# Altium integrated library Renesas Microcontroller H8SX.IntLib: 160 symbols (part 6 of 17)
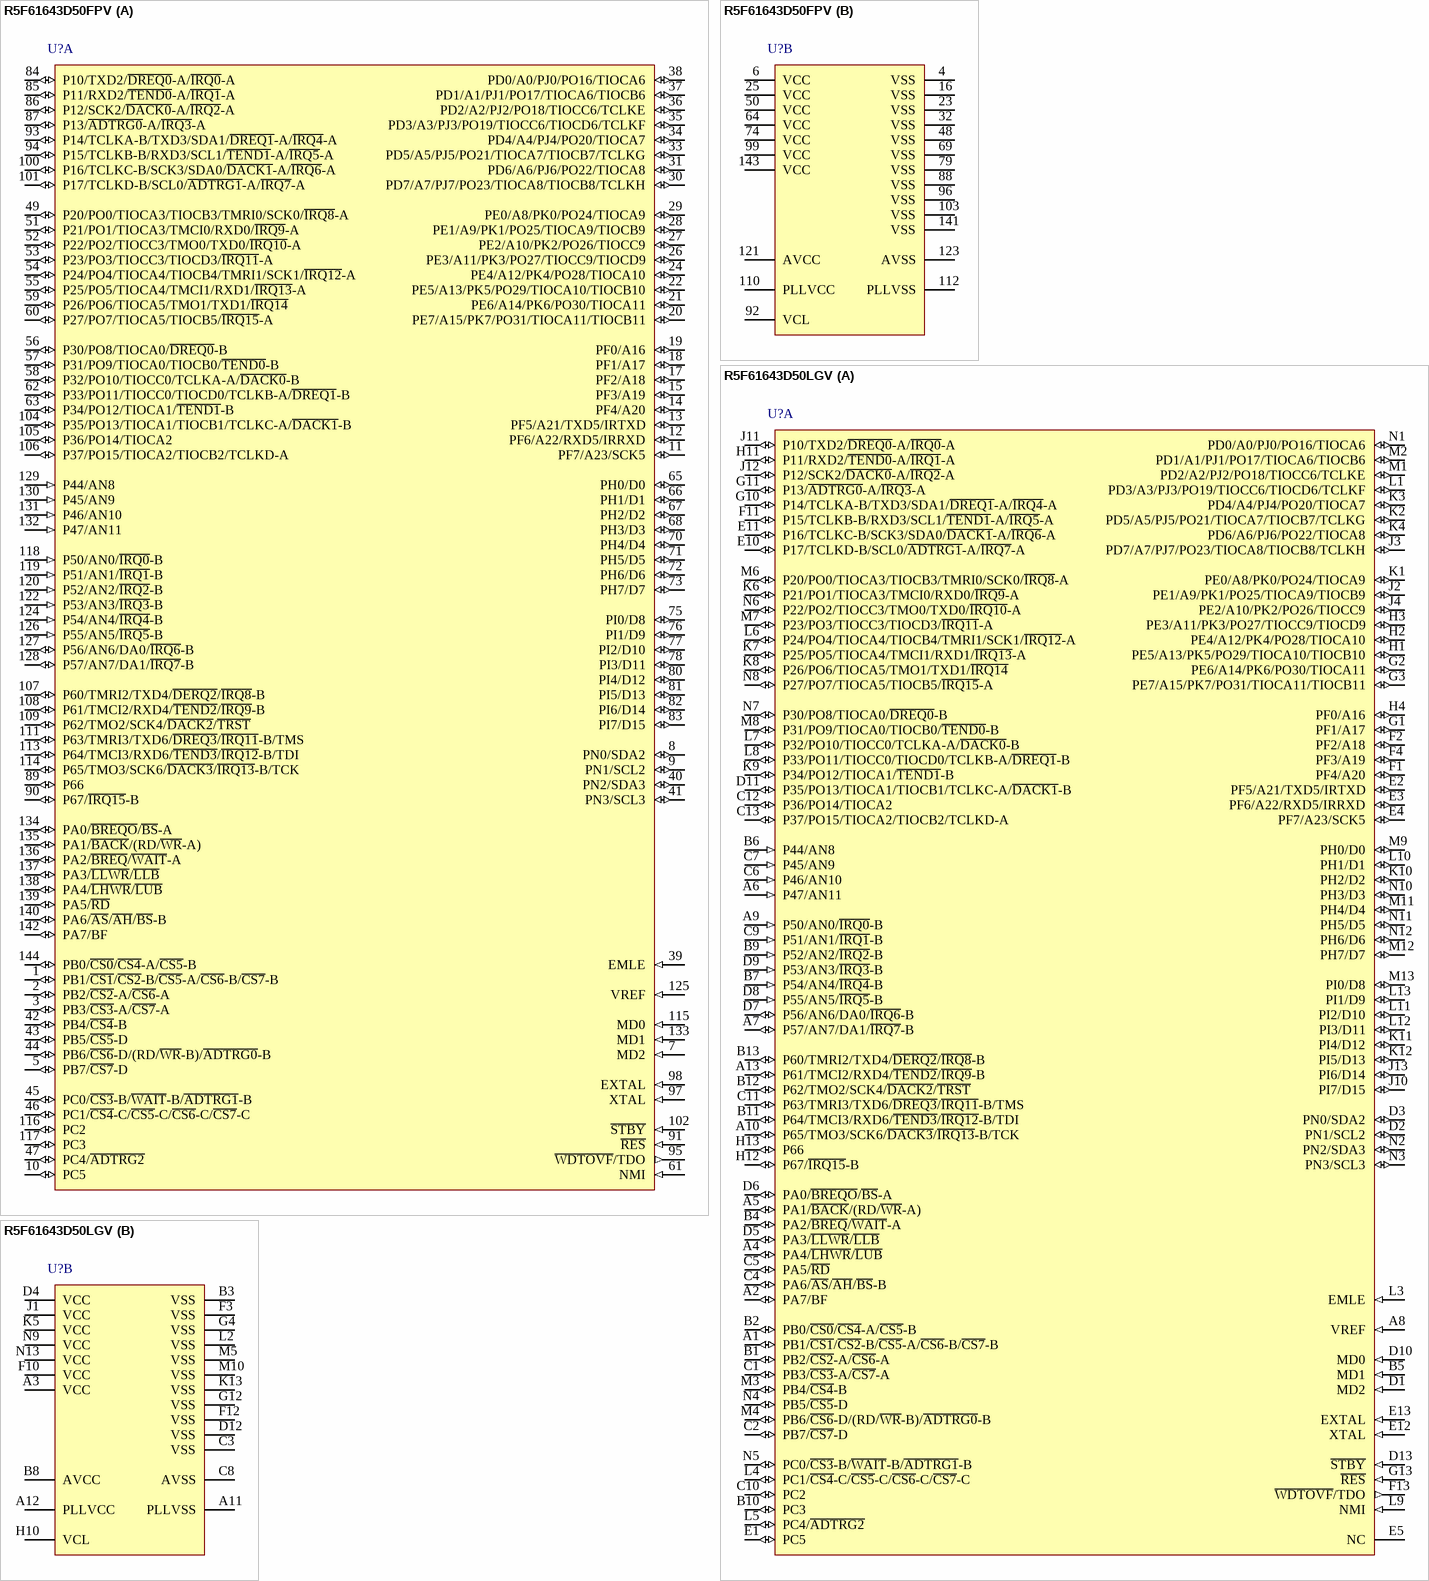
[diagram p95: symbols R5F61643D50FPV to R5F61643D50LGV]

## R5F61643D50LGV
designator U?
Flash memory H8SX/1600 Series, 1645 Group MCU, 384K ROM, 32K RAM, TLP-145V Pkg; Published: 28-Aug-2009; DatasheetVersion: Rev.2.00, Oct-2009; PackageVersion: Jun-2006; PackageReference: PTLG0145JB-A; Publisher: Altium Limited; PackageDescription: 145-Ball Plastic Thin Fine-Pitch BGA, 9 x 9 mm Body, 0.65 mm Pitch; Code_JEITA: P-TFLGA145-9x9-0.65; ComponentLink1Description: Manufacturer Link; ComponentLink1URL: http://sg.renesas.com/fmwk.jsp?cnt=h8sx_family_landing.jsp&fp=/products/mpumcu/h8sx_family/; ComponentLink2Description: Datasheet; ComponentLink2URL: http://documentation.renesas.com/eng/products/mpumcu/rej09b0497_h8sx1645hm.pdf; ComponentLink3Description: Packaging Specification; ComponentLink3URL: http://sg.renesas.com/media/products/common_info/package/pdf/ic/code/ptlg0145jb_a.pdf
footprint PTLG0145JB-A (BGA, 145-Leads, Body 9x9mm, Pitch 0.65mm)
part A pins: A1 PB1/~{CS1}/~{CS2}-B/~{CS5}-A/~{CS6}-B/~{CS7}-B (io), A2 PA7/BF (io), A4 PA4/~{LHWR}/~{LUB} (io), A5 PA1/~{BACK}/(RD/~{WR}-A) (io), A6 P47/AN11 (in), A7 P57/AN7/DA1/~{IRQ7}-B (io), A8 VREF (in), A9 P50/AN0/~{IRQ0}-B (in), A10 P65/TMO3/SCK6/~{DACK3}/~{IRQ13}-B/TCK (io), A13 P61/TMCI2/RXD4/~{TEND2}/~{IRQ9}-B (io), B1 PB2/~{CS2}-A/~{CS6}-A (io), B2 PB0/~{CS0}/~{CS4}-A/~{CS5}-B (io), B4 PA2/~{BREQ}/~{WAIT}-A (io), B5 MD1 (in), B6 P44/AN8 (in), B7 P54/AN4/~{IRQ4}-B (in), B9 P52/AN2/~{IRQ2}-B (in), B10 PC3 (io), B11 P64/TMCI3/RXD6/~{TEND3}/~{IRQ12}-B/TDI (io), B12 P62/TMO2/SCK4/~{DACK2}/~{TRST} (io), B13 P60/TMRI2/TXD4/~{DERQ2}/~{IRQ8}-B (io), C1 PB3/~{CS3}-A/~{CS7}-A (io), C2 PB7/~{CS7}-D (io), C4 PA6/~{AS}/~{AH}/~{BS}-B (io), C5 PA5/~{RD} (io), C6 P46/AN10 (in), C7 P45/AN9 (in), C9 P51/AN1/~{IRQ1}-B (in), C10 PC2 (io), C11 P63/TMRI3/TXD6/~{DREQ3}/~{IRQ11}-B/TMS (io), C12 P36/PO14/TIOCA2 (io), C13 P37/PO15/TIOCA2/TIOCB2/TCLKD-A (io), D1 MD2 (in), D2 PN1/SCL2 (io), D3 PN0/SDA2 (io), D5 PA3/~{LLWR}/~{LLB} (io), D6 PA0/~{BREQO}/~{BS}-A (io), D7 P56/AN6/DA0/~{IRQ6}-B (io), D8 P55/AN5/~{IRQ5}-B (in), D9 P53/AN3/~{IRQ3}-B (in), D10 MD0 (in), D11 P35/PO13/TIOCA1/TIOCB1/TCLKC-A/~{DACK1}-B (io), D13 ~{STBY} (in), E1 PC5 (io), E2 PF5/A21/TXD5/IRTXD (io), E3 PF6/A22/RXD5/IRRXD (io), E4 PF7/A23/SCK5 (io), E5 NC, E10 P17/TCLKD-B/SCL0/~{ADTRG1}-A/~{IRQ7}-A (io), E11 P16/TCLKC-B/SCK3/SDA0/~{DACK1}-A/~{IRQ6}-A (io), E12 XTAL (in), E13 EXTAL (in), F1 PF4/A20 (io), F2 PF2/A18 (io), F4 PF3/A19 (io), F11 P15/TCLKB-B/RXD3/SCL1/~{TEND1}-A/~{IRQ5}-A (io), F13 ~{WDTOVF}/TDO (out), G1 PF1/A17 (io), G2 PE6/A14/PK6/PO30/TIOCA11 (io), G3 PE7/A15/PK7/PO31/TIOCA11/TIOCB11 (io), G10 P14/TCLKA-B/TXD3/SDA1/~{DREQ1}-A/~{IRQ4}-A (io), G11 P13/~{ADTRG0}-A/~{IRQ3}-A (io), G13 ~{RES} (in), H1 PE5/A13/PK5/PO29/TIOCA10/TIOCB10 (io), H2 PE4/A12/PK4/PO28/TIOCA10 (io), H3 PE3/A11/PK3/PO27/TIOCC9/TIOCD9 (io), H4 PF0/A16 (io), H11 P11/RXD2/~{TEND0}-A/~{IRQ1}-A (io), H12 P67/~{IRQ15}-B (io), H13 P66 (io), J2 PE1/A9/PK1/PO25/TIOCA9/TIOCB9 (io), J3 PD7/A7/PJ7/PO23/TIOCA8/TIOCB8/TCLKH (io), J4 PE2/A10/PK2/PO26/TIOCC9 (io), J10 PI7/D15 (io), J11 P10/TXD2/~{DREQ0}-A/~{IRQ0}-A (io), J12 P12/SCK2/~{DACK0}-A/~{IRQ2}-A (io), J13 PI6/D14 (io), K1 PE0/A8/PK0/PO24/TIOCA9 (io), K2 PD5/A5/PJ5/PO21/TIOCA7/TIOCB7/TCLKG (io), K3 PD4/A4/PJ4/PO20/TIOCA7 (io), K4 PD6/A6/PJ6/PO22/TIOCA8 (io), K6 P21/PO1/TIOCA3/TMCI0/RXD0/~{IRQ9}-A (io), K7 P25/PO5/TIOCA4/TMCI1/RXD1/~{IRQ13}-A (io), K8 P26/PO6/TIOCA5/TMO1/TXD1/~{IRQ14} (io), K9 P34/PO12/TIOCA1/~{TEND1}-B (io), K10 PH2/D2 (io), K11 PI4/D12 (io), K12 PI5/D13 (io), L1 PD3/A3/PJ3/PO19/TIOCC6/TIOCD6/TCLKF (io), L3 EMLE (in), L4 PC1/~{CS4}-C/~{CS5}-C/~{CS6}-C/~{CS7}-C (io), L5 PC4/~{ADTRG2} (io), L6 P24/PO4/TIOCA4/TIOCB4/TMRI1/SCK1/~{IRQ12}-A (io), L7 P32/PO10/TIOCC0/TCLKA-A/~{DACK0}-B (io), L8 P33/PO11/TIOCC0/TIOCD0/TCLKB-A/~{DREQ1}-B (io), L9 NMI (in), L10 PH1/D1 (io), L11 PI2/D10 (io), L12 PI3/D11 (io), L13 PI1/D9 (io), M1 PD2/A2/PJ2/PO18/TIOCC6/TCLKE (io), M2 PD1/A1/PJ1/PO17/TIOCA6/TIOCB6 (io), M3 PB4/~{CS4}-B (io), M4 PB6/~{CS6}-D/(RD/~{WR}-B)/~{ADTRG0}-B (io), M6 P20/PO0/TIOCA3/TIOCB3/TMRI0/SCK0/~{IRQ8}-A (io), M7 P23/PO3/TIOCC3/TIOCD3/~{IRQ11}-A (io), M8 P31/PO9/TIOCA0/TIOCB0/~{TEND0}-B (io), M9 PH0/D0 (io), M11 PH4/D4 (io), M12 PH7/D7 (io), M13 PI0/D8 (io), N1 PD0/A0/PJ0/PO16/TIOCA6 (io), N2 PN2/SDA3 (io), N3 PN3/SCL3 (io), N4 PB5/~{CS5}-D (io), N5 PC0/~{CS3}-B/~{WAIT}-B/~{ADTRG1}-B (io), N6 P22/PO2/TIOCC3/TMO0/TXD0/~{IRQ10}-A (io), N7 P30/PO8/TIOCA0/~{DREQ0}-B (io), N8 P27/PO7/TIOCA5/TIOCB5/~{IRQ15}-A (io), N10 PH3/D3 (io), N11 PH5/D5 (io), N12 PH6/D6 (io)
part B pins: A3 VCC (power), A11 PLLVSS (power), A12 PLLVCC (power), B3 VSS (power), B8 AVCC (power), C3 VSS (power), C8 AVSS (power), D4 VCC (power), D12 VSS (power), F3 VSS (power), F10 VCC (power), F12 VSS (power), G4 VSS (power), G12 VSS (power), H10 VCL, J1 VCC (power), K5 VCC (power), K13 VSS (power), L2 VSS (power), M5 VSS (power), M10 VSS (power), N9 VCC (power), N13 VCC (power)

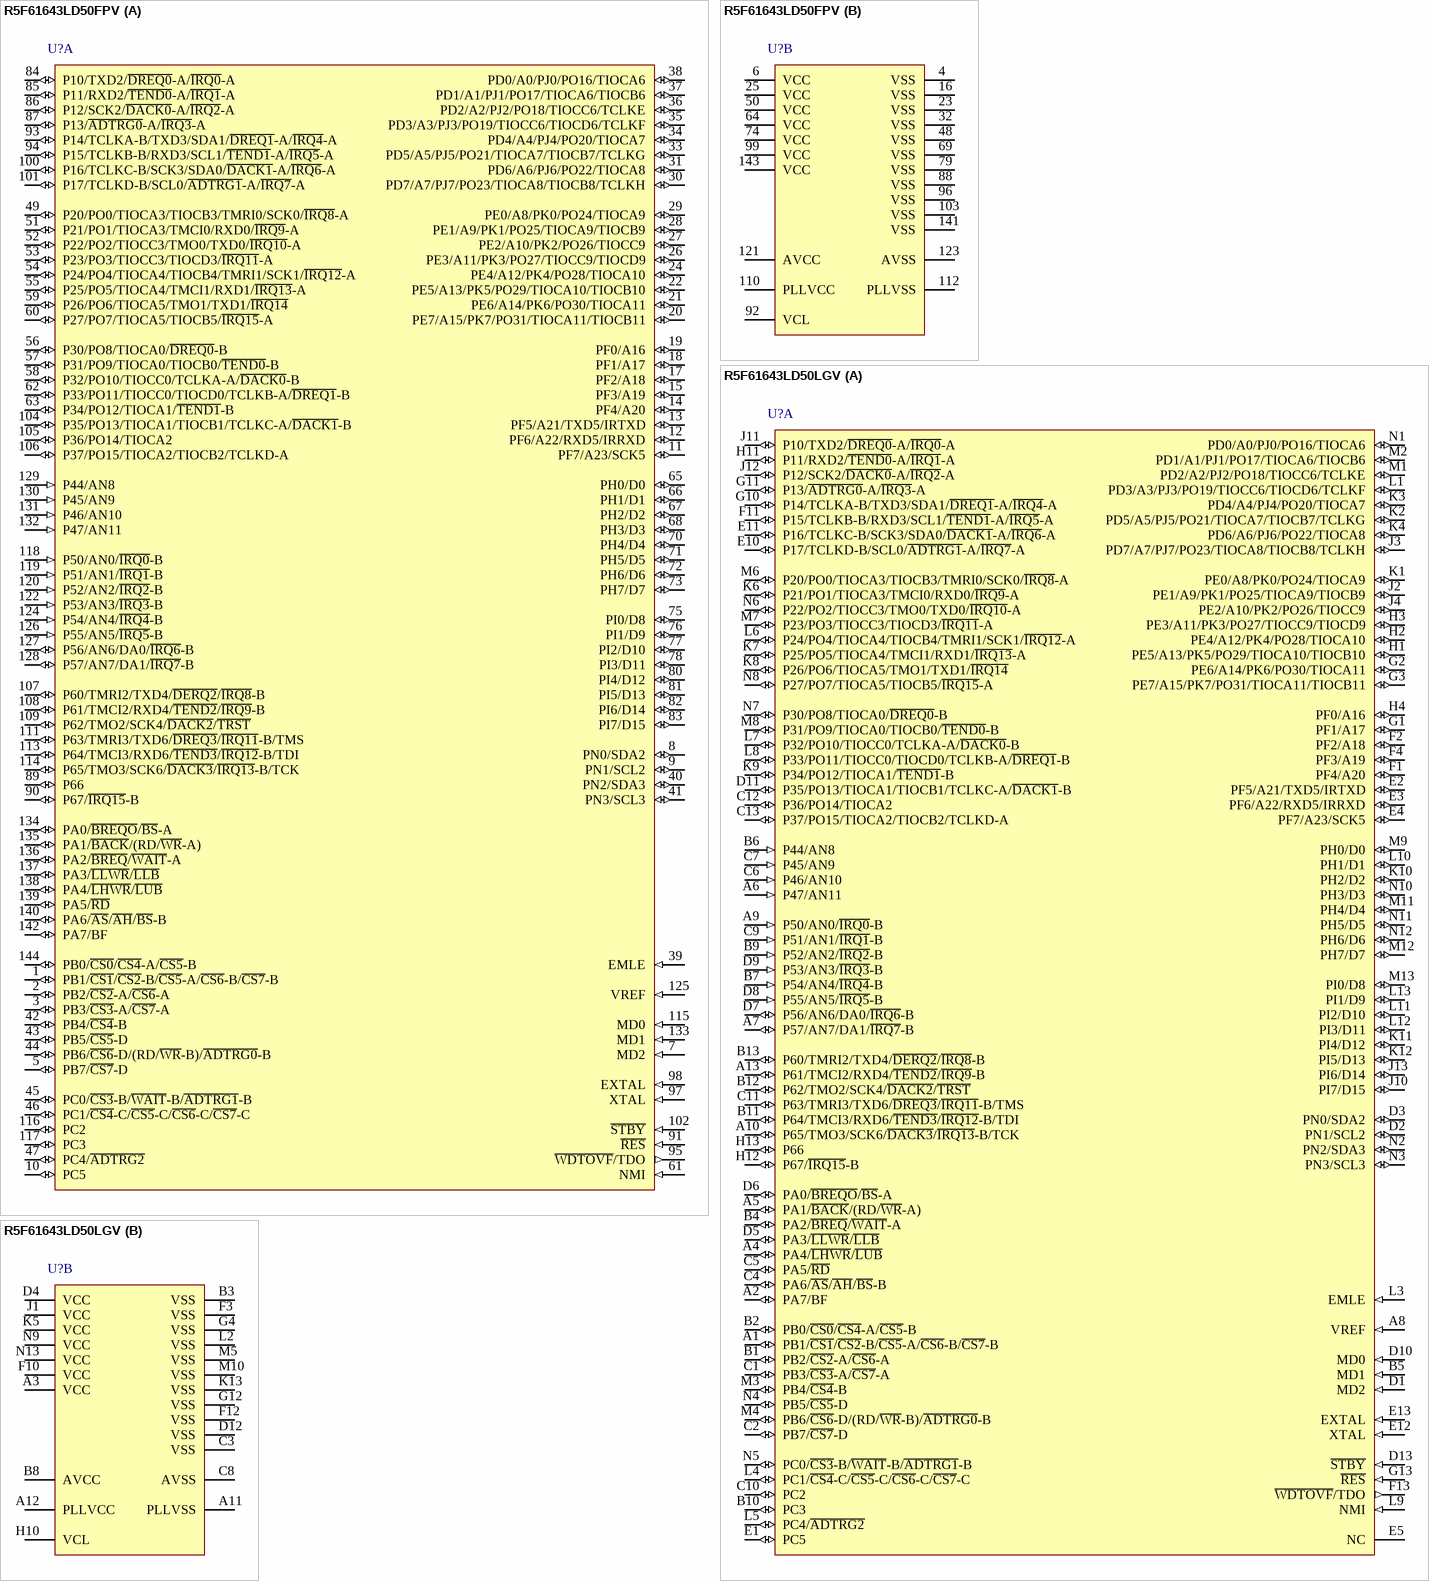
[diagram p27: symbols R5F61643LD50FPV to R5F61643LD50LGV]

## R5F61643LD50FPV
designator U?
Flash memory H8SX/1600 Series, 1645L Group MCU, 384K ROM, 32K RAM, FP-144L Pkg; Published: 12-Feb-2010; DatasheetVersion: Rev.2.00, Oct-2009; PackageVersion: Sep-2005; PackageReference: PLQP0144KA-A; Publisher: Altium Limited; PackageDescription: 144-Pin Plastic Low Profile QFP, 20 x 20 x 1.4 mm Body, 0.5 mm Pitch; Code_JEITA: P-LQFP144-20x20-0.50; Code_IPC: SQFP50P2200X2200-144; ComponentLink1Description: Manufacturer Link; ComponentLink1URL: http://sg.renesas.com/fmwk.jsp?cnt=h8sx_family_landing.jsp&fp=/products/mpumcu/h8sx_family/; ComponentLink2Description: Datasheet; ComponentLink2URL: http://documentation.renesas.com/eng/products/mpumcu/rej09b0497_h8sx1645hm.pdf; ComponentLink3Description: Packaging Specification; ComponentLink3URL: http://sg.renesas.com/media/products/common_info/package/pdf/ic/code/plqp0144ka_a.pdf
footprint PLQP0144KA-A_N (Shrink QFP, 144-Leads, Body 20x20mm, Pitch 0.5mm, IPC Medium Density)
footprint PLQP0144KA-A_L (Shrink QFP, 144-Leads, Body 20x20mm, Pitch 0.5mm, IPC High Density)
footprint PLQP0144KA-A_M (Shrink QFP, 144-Leads, Body 20x20mm, Pitch 0.5mm, IPC Low Density)
part A pins: 1 PB1/~{CS1}/~{CS2}-B/~{CS5}-A/~{CS6}-B/~{CS7}-B (io), 2 PB2/~{CS2}-A/~{CS6}-A (io), 3 PB3/~{CS3}-A/~{CS7}-A (io), 5 PB7/~{CS7}-D (io), 7 MD2 (in), 8 PN0/SDA2 (io), 9 PN1/SCL2 (io), 10 PC5 (io), 11 PF7/A23/SCK5 (io), 12 PF6/A22/RXD5/IRRXD (io), 13 PF5/A21/TXD5/IRTXD (io), 14 PF4/A20 (io), 15 PF3/A19 (io), 17 PF2/A18 (io), 18 PF1/A17 (io), 19 PF0/A16 (io), 20 PE7/A15/PK7/PO31/TIOCA11/TIOCB11 (io), 21 PE6/A14/PK6/PO30/TIOCA11 (io), 22 PE5/A13/PK5/PO29/TIOCA10/TIOCB10 (io), 24 PE4/A12/PK4/PO28/TIOCA10 (io), 26 PE3/A11/PK3/PO27/TIOCC9/TIOCD9 (io), 27 PE2/A10/PK2/PO26/TIOCC9 (io), 28 PE1/A9/PK1/PO25/TIOCA9/TIOCB9 (io), 29 PE0/A8/PK0/PO24/TIOCA9 (io), 30 PD7/A7/PJ7/PO23/TIOCA8/TIOCB8/TCLKH (io), 31 PD6/A6/PJ6/PO22/TIOCA8 (io), 33 PD5/A5/PJ5/PO21/TIOCA7/TIOCB7/TCLKG (io), 34 PD4/A4/PJ4/PO20/TIOCA7 (io), 35 PD3/A3/PJ3/PO19/TIOCC6/TIOCD6/TCLKF (io), 36 PD2/A2/PJ2/PO18/TIOCC6/TCLKE (io), 37 PD1/A1/PJ1/PO17/TIOCA6/TIOCB6 (io), 38 PD0/A0/PJ0/PO16/TIOCA6 (io), 39 EMLE (in), 40 PN2/SDA3 (io), 41 PN3/SCL3 (io), 42 PB4/~{CS4}-B (io), 43 PB5/~{CS5}-D (io), 44 PB6/~{CS6}-D/(RD/~{WR}-B)/~{ADTRG0}-B (io), 45 PC0/~{CS3}-B/~{WAIT}-B/~{ADTRG1}-B (io), 46 PC1/~{CS4}-C/~{CS5}-C/~{CS6}-C/~{CS7}-C (io), 47 PC4/~{ADTRG2} (io), 49 P20/PO0/TIOCA3/TIOCB3/TMRI0/SCK0/~{IRQ8}-A (io), 51 P21/PO1/TIOCA3/TMCI0/RXD0/~{IRQ9}-A (io), 52 P22/PO2/TIOCC3/TMO0/TXD0/~{IRQ10}-A (io), 53 P23/PO3/TIOCC3/TIOCD3/~{IRQ11}-A (io), 54 P24/PO4/TIOCA4/TIOCB4/TMRI1/SCK1/~{IRQ12}-A (io), 55 P25/PO5/TIOCA4/TMCI1/RXD1/~{IRQ13}-A (io), 56 P30/PO8/TIOCA0/~{DREQ0}-B (io), 57 P31/PO9/TIOCA0/TIOCB0/~{TEND0}-B (io), 58 P32/PO10/TIOCC0/TCLKA-A/~{DACK0}-B (io), 59 P26/PO6/TIOCA5/TMO1/TXD1/~{IRQ14} (io), 60 P27/PO7/TIOCA5/TIOCB5/~{IRQ15}-A (io), 61 NMI (in), 62 P33/PO11/TIOCC0/TIOCD0/TCLKB-A/~{DREQ1}-B (io), 63 P34/PO12/TIOCA1/~{TEND1}-B (io), 65 PH0/D0 (io), 66 PH1/D1 (io), 67 PH2/D2 (io), 68 PH3/D3 (io), 70 PH4/D4 (io), 71 PH5/D5 (io), 72 PH6/D6 (io), 73 PH7/D7 (io), 75 PI0/D8 (io), 76 PI1/D9 (io), 77 PI2/D10 (io), 78 PI3/D11 (io), 80 PI4/D12 (io), 81 PI5/D13 (io), 82 PI6/D14 (io), 83 PI7/D15 (io), 84 P10/TXD2/~{DREQ0}-A/~{IRQ0}-A (io), 85 P11/RXD2/~{TEND0}-A/~{IRQ1}-A (io), 86 P12/SCK2/~{DACK0}-A/~{IRQ2}-A (io), 87 P13/~{ADTRG0}-A/~{IRQ3}-A (io), 89 P66 (io), 90 P67/~{IRQ15}-B (io), 91 ~{RES} (in), 93 P14/TCLKA-B/TXD3/SDA1/~{DREQ1}-A/~{IRQ4}-A (io), 94 P15/TCLKB-B/RXD3/SCL1/~{TEND1}-A/~{IRQ5}-A (io), 95 ~{WDTOVF}/TDO (out), 97 XTAL (in), 98 EXTAL (in), 100 P16/TCLKC-B/SCK3/SDA0/~{DACK1}-A/~{IRQ6}-A (io), 101 P17/TCLKD-B/SCL0/~{ADTRG1}-A/~{IRQ7}-A (io), 102 ~{STBY} (in), 104 P35/PO13/TIOCA1/TIOCB1/TCLKC-A/~{DACK1}-B (io), 105 P36/PO14/TIOCA2 (io), 106 P37/PO15/TIOCA2/TIOCB2/TCLKD-A (io), 107 P60/TMRI2/TXD4/~{DERQ2}/~{IRQ8}-B (io), 108 P61/TMCI2/RXD4/~{TEND2}/~{IRQ9}-B (io), 109 P62/TMO2/SCK4/~{DACK2}/~{TRST} (io), 111 P63/TMRI3/TXD6/~{DREQ3}/~{IRQ11}-B/TMS (io), 113 P64/TMCI3/RXD6/~{TEND3}/~{IRQ12}-B/TDI (io), 114 P65/TMO3/SCK6/~{DACK3}/~{IRQ13}-B/TCK (io), 115 MD0 (in), 116 PC2 (io), 117 PC3 (io), 118 P50/AN0/~{IRQ0}-B (in), 119 P51/AN1/~{IRQ1}-B (in), 120 P52/AN2/~{IRQ2}-B (in), 122 P53/AN3/~{IRQ3}-B (in), 124 P54/AN4/~{IRQ4}-B (in), 125 VREF (in), 126 P55/AN5/~{IRQ5}-B (in), 127 P56/AN6/DA0/~{IRQ6}-B (io), 128 P57/AN7/DA1/~{IRQ7}-B (io), 129 P44/AN8 (in), 130 P45/AN9 (in), 131 P46/AN10 (in), 132 P47/AN11 (in), 133 MD1 (in), 134 PA0/~{BREQO}/~{BS}-A (io), 135 PA1/~{BACK}/(RD/~{WR}-A) (io), 136 PA2/~{BREQ}/~{WAIT}-A (io), 137 PA3/~{LLWR}/~{LLB} (io), 138 PA4/~{LHWR}/~{LUB} (io), 139 PA5/~{RD} (io), 140 PA6/~{AS}/~{AH}/~{BS}-B (io), 142 PA7/BF (io), 144 PB0/~{CS0}/~{CS4}-A/~{CS5}-B (io)
part B pins: 4 VSS (power), 6 VCC (power), 16 VSS (power), 23 VSS (power), 25 VCC (power), 32 VSS (power), 48 VSS (power), 50 VCC (power), 64 VCC (power), 69 VSS (power), 74 VCC (power), 79 VSS (power), 88 VSS (power), 92 VCL, 96 VSS (power), 99 VCC (power), 103 VSS (power), 110 PLLVCC (power), 112 PLLVSS (power), 121 AVCC (power), 123 AVSS (power), 141 VSS (power), 143 VCC (power)

## R5F61643LD50LGV
designator U?
Flash memory H8SX/1600 Series, 1645L Group MCU, 384K ROM, 32K RAM, TLP-145V Pkg; Published: 12-Feb-2010; DatasheetVersion: Rev.2.00, Oct-2009; PackageVersion: Jun-2006; PackageReference: PTLG0145JB-A; Publisher: Altium Limited; PackageDescription: 145-Ball Plastic Thin Fine-Pitch BGA, 9 x 9 mm Body, 0.65 mm Pitch; Code_JEITA: P-TFLGA145-9x9-0.65; ComponentLink1Description: Manufacturer Link; ComponentLink1URL: http://sg.renesas.com/fmwk.jsp?cnt=h8sx_family_landing.jsp&fp=/products/mpumcu/h8sx_family/; ComponentLink2Description: Datasheet; ComponentLink2URL: http://documentation.renesas.com/eng/products/mpumcu/rej09b0497_h8sx1645hm.pdf; ComponentLink3Description: Packaging Specification; ComponentLink3URL: http://sg.renesas.com/media/products/common_info/package/pdf/ic/code/ptlg0145jb_a.pdf
footprint PTLG0145JB-A (BGA, 145-Leads, Body 9x9mm, Pitch 0.65mm)
part A pins: A1 PB1/~{CS1}/~{CS2}-B/~{CS5}-A/~{CS6}-B/~{CS7}-B (io), A2 PA7/BF (io), A4 PA4/~{LHWR}/~{LUB} (io), A5 PA1/~{BACK}/(RD/~{WR}-A) (io), A6 P47/AN11 (in), A7 P57/AN7/DA1/~{IRQ7}-B (io), A8 VREF (in), A9 P50/AN0/~{IRQ0}-B (in), A10 P65/TMO3/SCK6/~{DACK3}/~{IRQ13}-B/TCK (io), A13 P61/TMCI2/RXD4/~{TEND2}/~{IRQ9}-B (io), B1 PB2/~{CS2}-A/~{CS6}-A (io), B2 PB0/~{CS0}/~{CS4}-A/~{CS5}-B (io), B4 PA2/~{BREQ}/~{WAIT}-A (io), B5 MD1 (in), B6 P44/AN8 (in), B7 P54/AN4/~{IRQ4}-B (in), B9 P52/AN2/~{IRQ2}-B (in), B10 PC3 (io), B11 P64/TMCI3/RXD6/~{TEND3}/~{IRQ12}-B/TDI (io), B12 P62/TMO2/SCK4/~{DACK2}/~{TRST} (io), B13 P60/TMRI2/TXD4/~{DERQ2}/~{IRQ8}-B (io), C1 PB3/~{CS3}-A/~{CS7}-A (io), C2 PB7/~{CS7}-D (io), C4 PA6/~{AS}/~{AH}/~{BS}-B (io), C5 PA5/~{RD} (io), C6 P46/AN10 (in), C7 P45/AN9 (in), C9 P51/AN1/~{IRQ1}-B (in), C10 PC2 (io), C11 P63/TMRI3/TXD6/~{DREQ3}/~{IRQ11}-B/TMS (io), C12 P36/PO14/TIOCA2 (io), C13 P37/PO15/TIOCA2/TIOCB2/TCLKD-A (io), D1 MD2 (in), D2 PN1/SCL2 (io), D3 PN0/SDA2 (io), D5 PA3/~{LLWR}/~{LLB} (io), D6 PA0/~{BREQO}/~{BS}-A (io), D7 P56/AN6/DA0/~{IRQ6}-B (io), D8 P55/AN5/~{IRQ5}-B (in), D9 P53/AN3/~{IRQ3}-B (in), D10 MD0 (in), D11 P35/PO13/TIOCA1/TIOCB1/TCLKC-A/~{DACK1}-B (io), D13 ~{STBY} (in), E1 PC5 (io), E2 PF5/A21/TXD5/IRTXD (io), E3 PF6/A22/RXD5/IRRXD (io), E4 PF7/A23/SCK5 (io), E5 NC, E10 P17/TCLKD-B/SCL0/~{ADTRG1}-A/~{IRQ7}-A (io), E11 P16/TCLKC-B/SCK3/SDA0/~{DACK1}-A/~{IRQ6}-A (io), E12 XTAL (in), E13 EXTAL (in), F1 PF4/A20 (io), F2 PF2/A18 (io), F4 PF3/A19 (io), F11 P15/TCLKB-B/RXD3/SCL1/~{TEND1}-A/~{IRQ5}-A (io), F13 ~{WDTOVF}/TDO (out), G1 PF1/A17 (io), G2 PE6/A14/PK6/PO30/TIOCA11 (io), G3 PE7/A15/PK7/PO31/TIOCA11/TIOCB11 (io), G10 P14/TCLKA-B/TXD3/SDA1/~{DREQ1}-A/~{IRQ4}-A (io), G11 P13/~{ADTRG0}-A/~{IRQ3}-A (io), G13 ~{RES} (in), H1 PE5/A13/PK5/PO29/TIOCA10/TIOCB10 (io), H2 PE4/A12/PK4/PO28/TIOCA10 (io), H3 PE3/A11/PK3/PO27/TIOCC9/TIOCD9 (io), H4 PF0/A16 (io), H11 P11/RXD2/~{TEND0}-A/~{IRQ1}-A (io), H12 P67/~{IRQ15}-B (io), H13 P66 (io), J2 PE1/A9/PK1/PO25/TIOCA9/TIOCB9 (io), J3 PD7/A7/PJ7/PO23/TIOCA8/TIOCB8/TCLKH (io), J4 PE2/A10/PK2/PO26/TIOCC9 (io), J10 PI7/D15 (io), J11 P10/TXD2/~{DREQ0}-A/~{IRQ0}-A (io), J12 P12/SCK2/~{DACK0}-A/~{IRQ2}-A (io), J13 PI6/D14 (io), K1 PE0/A8/PK0/PO24/TIOCA9 (io), K2 PD5/A5/PJ5/PO21/TIOCA7/TIOCB7/TCLKG (io), K3 PD4/A4/PJ4/PO20/TIOCA7 (io), K4 PD6/A6/PJ6/PO22/TIOCA8 (io), K6 P21/PO1/TIOCA3/TMCI0/RXD0/~{IRQ9}-A (io), K7 P25/PO5/TIOCA4/TMCI1/RXD1/~{IRQ13}-A (io), K8 P26/PO6/TIOCA5/TMO1/TXD1/~{IRQ14} (io), K9 P34/PO12/TIOCA1/~{TEND1}-B (io), K10 PH2/D2 (io), K11 PI4/D12 (io), K12 PI5/D13 (io), L1 PD3/A3/PJ3/PO19/TIOCC6/TIOCD6/TCLKF (io), L3 EMLE (in), L4 PC1/~{CS4}-C/~{CS5}-C/~{CS6}-C/~{CS7}-C (io), L5 PC4/~{ADTRG2} (io), L6 P24/PO4/TIOCA4/TIOCB4/TMRI1/SCK1/~{IRQ12}-A (io), L7 P32/PO10/TIOCC0/TCLKA-A/~{DACK0}-B (io), L8 P33/PO11/TIOCC0/TIOCD0/TCLKB-A/~{DREQ1}-B (io), L9 NMI (in), L10 PH1/D1 (io), L11 PI2/D10 (io), L12 PI3/D11 (io), L13 PI1/D9 (io), M1 PD2/A2/PJ2/PO18/TIOCC6/TCLKE (io), M2 PD1/A1/PJ1/PO17/TIOCA6/TIOCB6 (io), M3 PB4/~{CS4}-B (io), M4 PB6/~{CS6}-D/(RD/~{WR}-B)/~{ADTRG0}-B (io), M6 P20/PO0/TIOCA3/TIOCB3/TMRI0/SCK0/~{IRQ8}-A (io), M7 P23/PO3/TIOCC3/TIOCD3/~{IRQ11}-A (io), M8 P31/PO9/TIOCA0/TIOCB0/~{TEND0}-B (io), M9 PH0/D0 (io), M11 PH4/D4 (io), M12 PH7/D7 (io), M13 PI0/D8 (io), N1 PD0/A0/PJ0/PO16/TIOCA6 (io), N2 PN2/SDA3 (io), N3 PN3/SCL3 (io), N4 PB5/~{CS5}-D (io), N5 PC0/~{CS3}-B/~{WAIT}-B/~{ADTRG1}-B (io), N6 P22/PO2/TIOCC3/TMO0/TXD0/~{IRQ10}-A (io), N7 P30/PO8/TIOCA0/~{DREQ0}-B (io), N8 P27/PO7/TIOCA5/TIOCB5/~{IRQ15}-A (io), N10 PH3/D3 (io), N11 PH5/D5 (io), N12 PH6/D6 (io)
part B pins: A3 VCC (power), A11 PLLVSS (power), A12 PLLVCC (power), B3 VSS (power), B8 AVCC (power), C3 VSS (power), C8 AVSS (power), D4 VCC (power), D12 VSS (power), F3 VSS (power), F10 VCC (power), F12 VSS (power), G4 VSS (power), G12 VSS (power), H10 VCL, J1 VCC (power), K5 VCC (power), K13 VSS (power), L2 VSS (power), M5 VSS (power), M10 VSS (power), N9 VCC (power), N13 VCC (power)

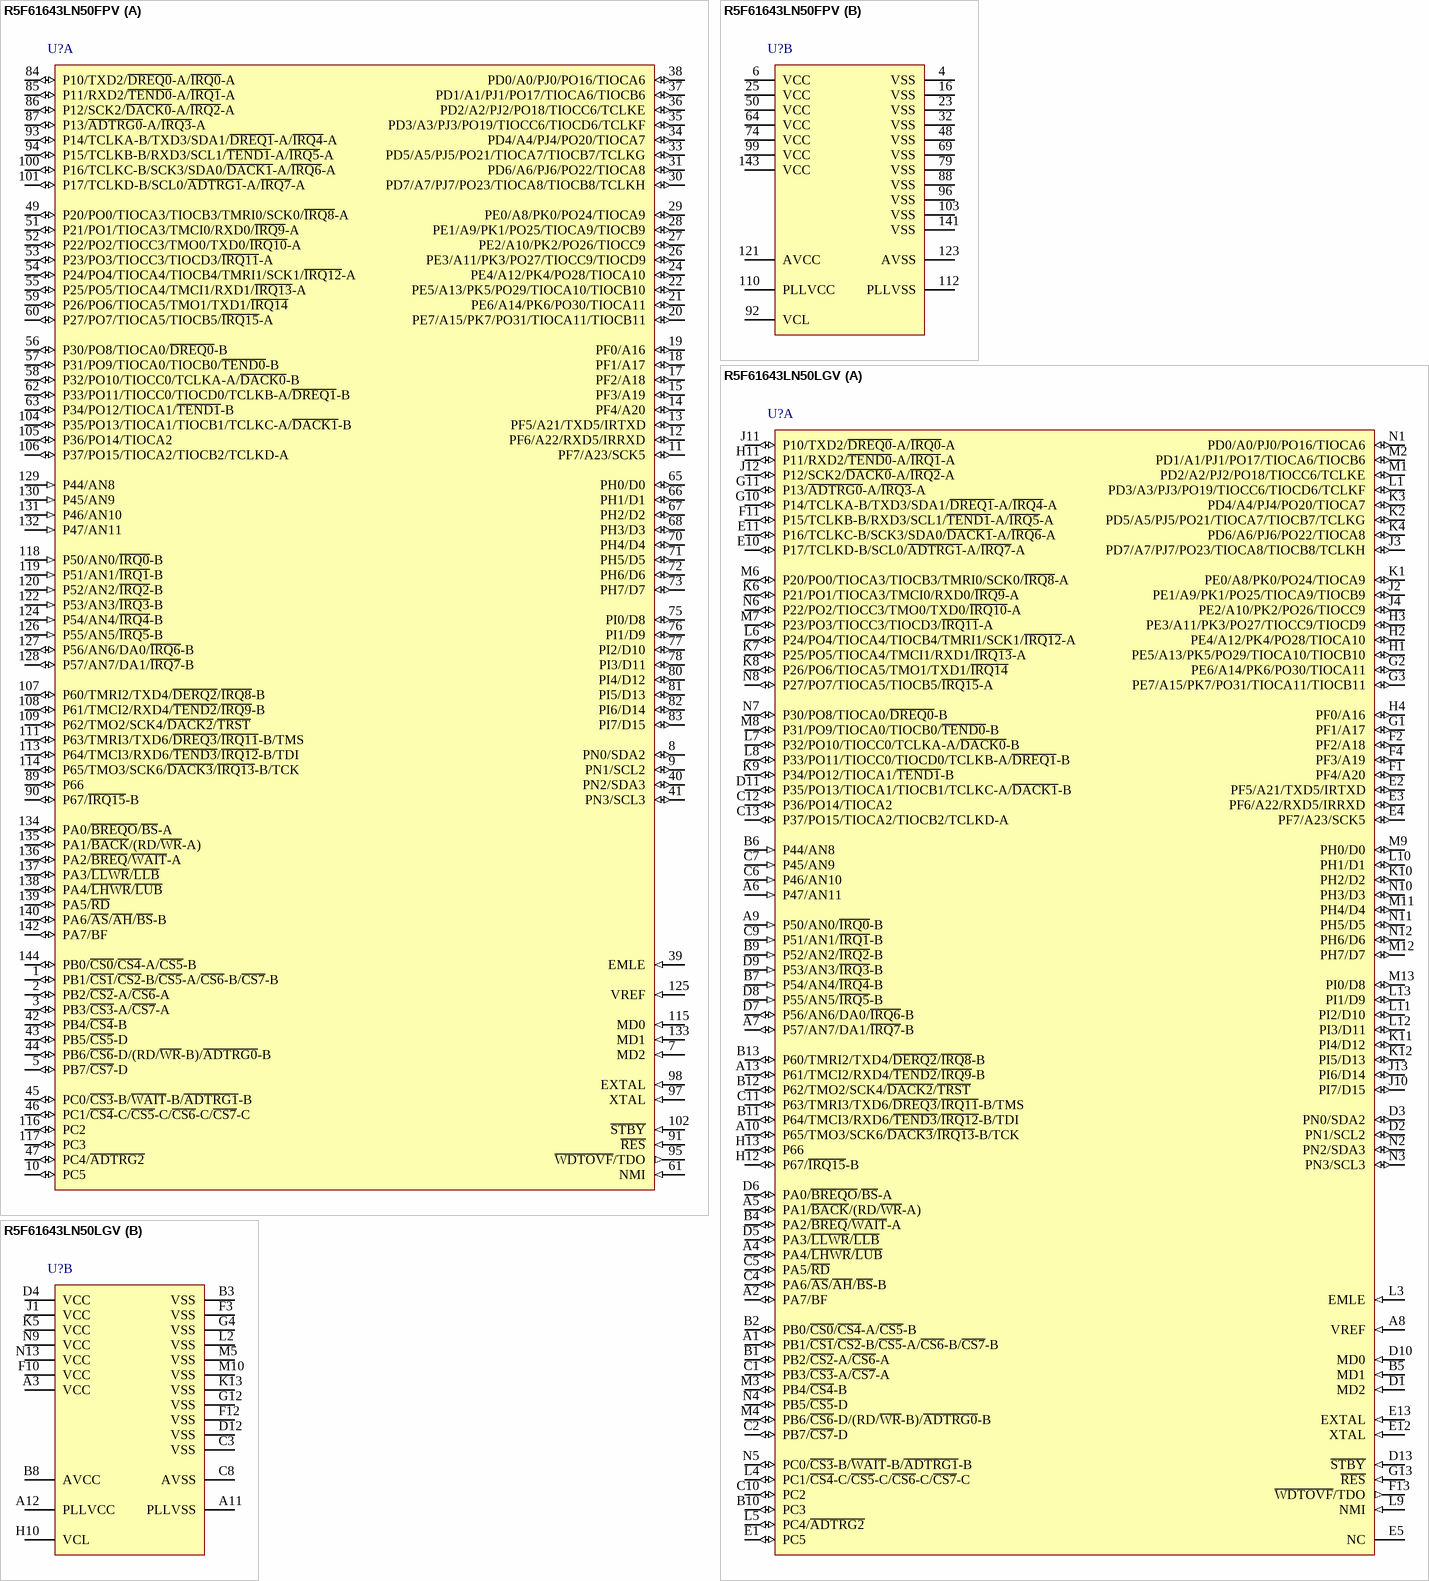
[diagram p28: symbols R5F61643LN50FPV to R5F61643LN50LGV]

## R5F61643LN50FPV
designator U?
Flash memory H8SX/1600 Series, 1645L Group MCU, 384K ROM, 32K RAM, FP-144L Pkg; Published: 12-Feb-2010; DatasheetVersion: Rev.2.00, Oct-2009; PackageVersion: Sep-2005; PackageReference: PLQP0144KA-A; Publisher: Altium Limited; PackageDescription: 144-Pin Plastic Low Profile QFP, 20 x 20 x 1.4 mm Body, 0.5 mm Pitch; Code_JEITA: P-LQFP144-20x20-0.50; Code_IPC: SQFP50P2200X2200-144; ComponentLink1Description: Manufacturer Link; ComponentLink1URL: http://sg.renesas.com/fmwk.jsp?cnt=h8sx_family_landing.jsp&fp=/products/mpumcu/h8sx_family/; ComponentLink2Description: Datasheet; ComponentLink2URL: http://documentation.renesas.com/eng/products/mpumcu/rej09b0497_h8sx1645hm.pdf; ComponentLink3Description: Packaging Specification; ComponentLink3URL: http://sg.renesas.com/media/products/common_info/package/pdf/ic/code/plqp0144ka_a.pdf
footprint PLQP0144KA-A_N (Shrink QFP, 144-Leads, Body 20x20mm, Pitch 0.5mm, IPC Medium Density)
footprint PLQP0144KA-A_L (Shrink QFP, 144-Leads, Body 20x20mm, Pitch 0.5mm, IPC High Density)
footprint PLQP0144KA-A_M (Shrink QFP, 144-Leads, Body 20x20mm, Pitch 0.5mm, IPC Low Density)
part A pins: 1 PB1/~{CS1}/~{CS2}-B/~{CS5}-A/~{CS6}-B/~{CS7}-B (io), 2 PB2/~{CS2}-A/~{CS6}-A (io), 3 PB3/~{CS3}-A/~{CS7}-A (io), 5 PB7/~{CS7}-D (io), 7 MD2 (in), 8 PN0/SDA2 (io), 9 PN1/SCL2 (io), 10 PC5 (io), 11 PF7/A23/SCK5 (io), 12 PF6/A22/RXD5/IRRXD (io), 13 PF5/A21/TXD5/IRTXD (io), 14 PF4/A20 (io), 15 PF3/A19 (io), 17 PF2/A18 (io), 18 PF1/A17 (io), 19 PF0/A16 (io), 20 PE7/A15/PK7/PO31/TIOCA11/TIOCB11 (io), 21 PE6/A14/PK6/PO30/TIOCA11 (io), 22 PE5/A13/PK5/PO29/TIOCA10/TIOCB10 (io), 24 PE4/A12/PK4/PO28/TIOCA10 (io), 26 PE3/A11/PK3/PO27/TIOCC9/TIOCD9 (io), 27 PE2/A10/PK2/PO26/TIOCC9 (io), 28 PE1/A9/PK1/PO25/TIOCA9/TIOCB9 (io), 29 PE0/A8/PK0/PO24/TIOCA9 (io), 30 PD7/A7/PJ7/PO23/TIOCA8/TIOCB8/TCLKH (io), 31 PD6/A6/PJ6/PO22/TIOCA8 (io), 33 PD5/A5/PJ5/PO21/TIOCA7/TIOCB7/TCLKG (io), 34 PD4/A4/PJ4/PO20/TIOCA7 (io), 35 PD3/A3/PJ3/PO19/TIOCC6/TIOCD6/TCLKF (io), 36 PD2/A2/PJ2/PO18/TIOCC6/TCLKE (io), 37 PD1/A1/PJ1/PO17/TIOCA6/TIOCB6 (io), 38 PD0/A0/PJ0/PO16/TIOCA6 (io), 39 EMLE (in), 40 PN2/SDA3 (io), 41 PN3/SCL3 (io), 42 PB4/~{CS4}-B (io), 43 PB5/~{CS5}-D (io), 44 PB6/~{CS6}-D/(RD/~{WR}-B)/~{ADTRG0}-B (io), 45 PC0/~{CS3}-B/~{WAIT}-B/~{ADTRG1}-B (io), 46 PC1/~{CS4}-C/~{CS5}-C/~{CS6}-C/~{CS7}-C (io), 47 PC4/~{ADTRG2} (io), 49 P20/PO0/TIOCA3/TIOCB3/TMRI0/SCK0/~{IRQ8}-A (io), 51 P21/PO1/TIOCA3/TMCI0/RXD0/~{IRQ9}-A (io), 52 P22/PO2/TIOCC3/TMO0/TXD0/~{IRQ10}-A (io), 53 P23/PO3/TIOCC3/TIOCD3/~{IRQ11}-A (io), 54 P24/PO4/TIOCA4/TIOCB4/TMRI1/SCK1/~{IRQ12}-A (io), 55 P25/PO5/TIOCA4/TMCI1/RXD1/~{IRQ13}-A (io), 56 P30/PO8/TIOCA0/~{DREQ0}-B (io), 57 P31/PO9/TIOCA0/TIOCB0/~{TEND0}-B (io), 58 P32/PO10/TIOCC0/TCLKA-A/~{DACK0}-B (io), 59 P26/PO6/TIOCA5/TMO1/TXD1/~{IRQ14} (io), 60 P27/PO7/TIOCA5/TIOCB5/~{IRQ15}-A (io), 61 NMI (in), 62 P33/PO11/TIOCC0/TIOCD0/TCLKB-A/~{DREQ1}-B (io), 63 P34/PO12/TIOCA1/~{TEND1}-B (io), 65 PH0/D0 (io), 66 PH1/D1 (io), 67 PH2/D2 (io), 68 PH3/D3 (io), 70 PH4/D4 (io), 71 PH5/D5 (io), 72 PH6/D6 (io), 73 PH7/D7 (io), 75 PI0/D8 (io), 76 PI1/D9 (io), 77 PI2/D10 (io), 78 PI3/D11 (io), 80 PI4/D12 (io), 81 PI5/D13 (io), 82 PI6/D14 (io), 83 PI7/D15 (io), 84 P10/TXD2/~{DREQ0}-A/~{IRQ0}-A (io), 85 P11/RXD2/~{TEND0}-A/~{IRQ1}-A (io), 86 P12/SCK2/~{DACK0}-A/~{IRQ2}-A (io), 87 P13/~{ADTRG0}-A/~{IRQ3}-A (io), 89 P66 (io), 90 P67/~{IRQ15}-B (io), 91 ~{RES} (in), 93 P14/TCLKA-B/TXD3/SDA1/~{DREQ1}-A/~{IRQ4}-A (io), 94 P15/TCLKB-B/RXD3/SCL1/~{TEND1}-A/~{IRQ5}-A (io), 95 ~{WDTOVF}/TDO (out), 97 XTAL (in), 98 EXTAL (in), 100 P16/TCLKC-B/SCK3/SDA0/~{DACK1}-A/~{IRQ6}-A (io), 101 P17/TCLKD-B/SCL0/~{ADTRG1}-A/~{IRQ7}-A (io), 102 ~{STBY} (in), 104 P35/PO13/TIOCA1/TIOCB1/TCLKC-A/~{DACK1}-B (io), 105 P36/PO14/TIOCA2 (io), 106 P37/PO15/TIOCA2/TIOCB2/TCLKD-A (io), 107 P60/TMRI2/TXD4/~{DERQ2}/~{IRQ8}-B (io), 108 P61/TMCI2/RXD4/~{TEND2}/~{IRQ9}-B (io), 109 P62/TMO2/SCK4/~{DACK2}/~{TRST} (io), 111 P63/TMRI3/TXD6/~{DREQ3}/~{IRQ11}-B/TMS (io), 113 P64/TMCI3/RXD6/~{TEND3}/~{IRQ12}-B/TDI (io), 114 P65/TMO3/SCK6/~{DACK3}/~{IRQ13}-B/TCK (io), 115 MD0 (in), 116 PC2 (io), 117 PC3 (io), 118 P50/AN0/~{IRQ0}-B (in), 119 P51/AN1/~{IRQ1}-B (in), 120 P52/AN2/~{IRQ2}-B (in), 122 P53/AN3/~{IRQ3}-B (in), 124 P54/AN4/~{IRQ4}-B (in), 125 VREF (in), 126 P55/AN5/~{IRQ5}-B (in), 127 P56/AN6/DA0/~{IRQ6}-B (io), 128 P57/AN7/DA1/~{IRQ7}-B (io), 129 P44/AN8 (in), 130 P45/AN9 (in), 131 P46/AN10 (in), 132 P47/AN11 (in), 133 MD1 (in), 134 PA0/~{BREQO}/~{BS}-A (io), 135 PA1/~{BACK}/(RD/~{WR}-A) (io), 136 PA2/~{BREQ}/~{WAIT}-A (io), 137 PA3/~{LLWR}/~{LLB} (io), 138 PA4/~{LHWR}/~{LUB} (io), 139 PA5/~{RD} (io), 140 PA6/~{AS}/~{AH}/~{BS}-B (io), 142 PA7/BF (io), 144 PB0/~{CS0}/~{CS4}-A/~{CS5}-B (io)
part B pins: 4 VSS (power), 6 VCC (power), 16 VSS (power), 23 VSS (power), 25 VCC (power), 32 VSS (power), 48 VSS (power), 50 VCC (power), 64 VCC (power), 69 VSS (power), 74 VCC (power), 79 VSS (power), 88 VSS (power), 92 VCL, 96 VSS (power), 99 VCC (power), 103 VSS (power), 110 PLLVCC (power), 112 PLLVSS (power), 121 AVCC (power), 123 AVSS (power), 141 VSS (power), 143 VCC (power)

## R5F61643LN50LGV
designator U?
Flash memory H8SX/1600 Series, 1645L Group MCU, 384K ROM, 32K RAM, TLP-145V Pkg; Published: 12-Feb-2010; DatasheetVersion: Rev.2.00, Oct-2009; PackageVersion: Jun-2006; PackageReference: PTLG0145JB-A; Publisher: Altium Limited; PackageDescription: 145-Ball Plastic Thin Fine-Pitch BGA, 9 x 9 mm Body, 0.65 mm Pitch; Code_JEITA: P-TFLGA145-9x9-0.65; ComponentLink1Description: Manufacturer Link; ComponentLink1URL: http://sg.renesas.com/fmwk.jsp?cnt=h8sx_family_landing.jsp&fp=/products/mpumcu/h8sx_family/; ComponentLink2Description: Datasheet; ComponentLink2URL: http://documentation.renesas.com/eng/products/mpumcu/rej09b0497_h8sx1645hm.pdf; ComponentLink3Description: Packaging Specification; ComponentLink3URL: http://sg.renesas.com/media/products/common_info/package/pdf/ic/code/ptlg0145jb_a.pdf
footprint PTLG0145JB-A (BGA, 145-Leads, Body 9x9mm, Pitch 0.65mm)
part A pins: A1 PB1/~{CS1}/~{CS2}-B/~{CS5}-A/~{CS6}-B/~{CS7}-B (io), A2 PA7/BF (io), A4 PA4/~{LHWR}/~{LUB} (io), A5 PA1/~{BACK}/(RD/~{WR}-A) (io), A6 P47/AN11 (in), A7 P57/AN7/DA1/~{IRQ7}-B (io), A8 VREF (in), A9 P50/AN0/~{IRQ0}-B (in), A10 P65/TMO3/SCK6/~{DACK3}/~{IRQ13}-B/TCK (io), A13 P61/TMCI2/RXD4/~{TEND2}/~{IRQ9}-B (io), B1 PB2/~{CS2}-A/~{CS6}-A (io), B2 PB0/~{CS0}/~{CS4}-A/~{CS5}-B (io), B4 PA2/~{BREQ}/~{WAIT}-A (io), B5 MD1 (in), B6 P44/AN8 (in), B7 P54/AN4/~{IRQ4}-B (in), B9 P52/AN2/~{IRQ2}-B (in), B10 PC3 (io), B11 P64/TMCI3/RXD6/~{TEND3}/~{IRQ12}-B/TDI (io), B12 P62/TMO2/SCK4/~{DACK2}/~{TRST} (io), B13 P60/TMRI2/TXD4/~{DERQ2}/~{IRQ8}-B (io), C1 PB3/~{CS3}-A/~{CS7}-A (io), C2 PB7/~{CS7}-D (io), C4 PA6/~{AS}/~{AH}/~{BS}-B (io), C5 PA5/~{RD} (io), C6 P46/AN10 (in), C7 P45/AN9 (in), C9 P51/AN1/~{IRQ1}-B (in), C10 PC2 (io), C11 P63/TMRI3/TXD6/~{DREQ3}/~{IRQ11}-B/TMS (io), C12 P36/PO14/TIOCA2 (io), C13 P37/PO15/TIOCA2/TIOCB2/TCLKD-A (io), D1 MD2 (in), D2 PN1/SCL2 (io), D3 PN0/SDA2 (io), D5 PA3/~{LLWR}/~{LLB} (io), D6 PA0/~{BREQO}/~{BS}-A (io), D7 P56/AN6/DA0/~{IRQ6}-B (io), D8 P55/AN5/~{IRQ5}-B (in), D9 P53/AN3/~{IRQ3}-B (in), D10 MD0 (in), D11 P35/PO13/TIOCA1/TIOCB1/TCLKC-A/~{DACK1}-B (io), D13 ~{STBY} (in), E1 PC5 (io), E2 PF5/A21/TXD5/IRTXD (io), E3 PF6/A22/RXD5/IRRXD (io), E4 PF7/A23/SCK5 (io), E5 NC, E10 P17/TCLKD-B/SCL0/~{ADTRG1}-A/~{IRQ7}-A (io), E11 P16/TCLKC-B/SCK3/SDA0/~{DACK1}-A/~{IRQ6}-A (io), E12 XTAL (in), E13 EXTAL (in), F1 PF4/A20 (io), F2 PF2/A18 (io), F4 PF3/A19 (io), F11 P15/TCLKB-B/RXD3/SCL1/~{TEND1}-A/~{IRQ5}-A (io), F13 ~{WDTOVF}/TDO (out), G1 PF1/A17 (io), G2 PE6/A14/PK6/PO30/TIOCA11 (io), G3 PE7/A15/PK7/PO31/TIOCA11/TIOCB11 (io), G10 P14/TCLKA-B/TXD3/SDA1/~{DREQ1}-A/~{IRQ4}-A (io), G11 P13/~{ADTRG0}-A/~{IRQ3}-A (io), G13 ~{RES} (in), H1 PE5/A13/PK5/PO29/TIOCA10/TIOCB10 (io), H2 PE4/A12/PK4/PO28/TIOCA10 (io), H3 PE3/A11/PK3/PO27/TIOCC9/TIOCD9 (io), H4 PF0/A16 (io), H11 P11/RXD2/~{TEND0}-A/~{IRQ1}-A (io), H12 P67/~{IRQ15}-B (io), H13 P66 (io), J2 PE1/A9/PK1/PO25/TIOCA9/TIOCB9 (io), J3 PD7/A7/PJ7/PO23/TIOCA8/TIOCB8/TCLKH (io), J4 PE2/A10/PK2/PO26/TIOCC9 (io), J10 PI7/D15 (io), J11 P10/TXD2/~{DREQ0}-A/~{IRQ0}-A (io), J12 P12/SCK2/~{DACK0}-A/~{IRQ2}-A (io), J13 PI6/D14 (io), K1 PE0/A8/PK0/PO24/TIOCA9 (io), K2 PD5/A5/PJ5/PO21/TIOCA7/TIOCB7/TCLKG (io), K3 PD4/A4/PJ4/PO20/TIOCA7 (io), K4 PD6/A6/PJ6/PO22/TIOCA8 (io), K6 P21/PO1/TIOCA3/TMCI0/RXD0/~{IRQ9}-A (io), K7 P25/PO5/TIOCA4/TMCI1/RXD1/~{IRQ13}-A (io), K8 P26/PO6/TIOCA5/TMO1/TXD1/~{IRQ14} (io), K9 P34/PO12/TIOCA1/~{TEND1}-B (io), K10 PH2/D2 (io), K11 PI4/D12 (io), K12 PI5/D13 (io), L1 PD3/A3/PJ3/PO19/TIOCC6/TIOCD6/TCLKF (io), L3 EMLE (in), L4 PC1/~{CS4}-C/~{CS5}-C/~{CS6}-C/~{CS7}-C (io), L5 PC4/~{ADTRG2} (io), L6 P24/PO4/TIOCA4/TIOCB4/TMRI1/SCK1/~{IRQ12}-A (io), L7 P32/PO10/TIOCC0/TCLKA-A/~{DACK0}-B (io), L8 P33/PO11/TIOCC0/TIOCD0/TCLKB-A/~{DREQ1}-B (io), L9 NMI (in), L10 PH1/D1 (io), L11 PI2/D10 (io), L12 PI3/D11 (io), L13 PI1/D9 (io), M1 PD2/A2/PJ2/PO18/TIOCC6/TCLKE (io), M2 PD1/A1/PJ1/PO17/TIOCA6/TIOCB6 (io), M3 PB4/~{CS4}-B (io), M4 PB6/~{CS6}-D/(RD/~{WR}-B)/~{ADTRG0}-B (io), M6 P20/PO0/TIOCA3/TIOCB3/TMRI0/SCK0/~{IRQ8}-A (io), M7 P23/PO3/TIOCC3/TIOCD3/~{IRQ11}-A (io), M8 P31/PO9/TIOCA0/TIOCB0/~{TEND0}-B (io), M9 PH0/D0 (io), M11 PH4/D4 (io), M12 PH7/D7 (io), M13 PI0/D8 (io), N1 PD0/A0/PJ0/PO16/TIOCA6 (io), N2 PN2/SDA3 (io), N3 PN3/SCL3 (io), N4 PB5/~{CS5}-D (io), N5 PC0/~{CS3}-B/~{WAIT}-B/~{ADTRG1}-B (io), N6 P22/PO2/TIOCC3/TMO0/TXD0/~{IRQ10}-A (io), N7 P30/PO8/TIOCA0/~{DREQ0}-B (io), N8 P27/PO7/TIOCA5/TIOCB5/~{IRQ15}-A (io), N10 PH3/D3 (io), N11 PH5/D5 (io), N12 PH6/D6 (io)
part B pins: A3 VCC (power), A11 PLLVSS (power), A12 PLLVCC (power), B3 VSS (power), B8 AVCC (power), C3 VSS (power), C8 AVSS (power), D4 VCC (power), D12 VSS (power), F3 VSS (power), F10 VCC (power), F12 VSS (power), G4 VSS (power), G12 VSS (power), H10 VCL, J1 VCC (power), K5 VCC (power), K13 VSS (power), L2 VSS (power), M5 VSS (power), M10 VSS (power), N9 VCC (power), N13 VCC (power)

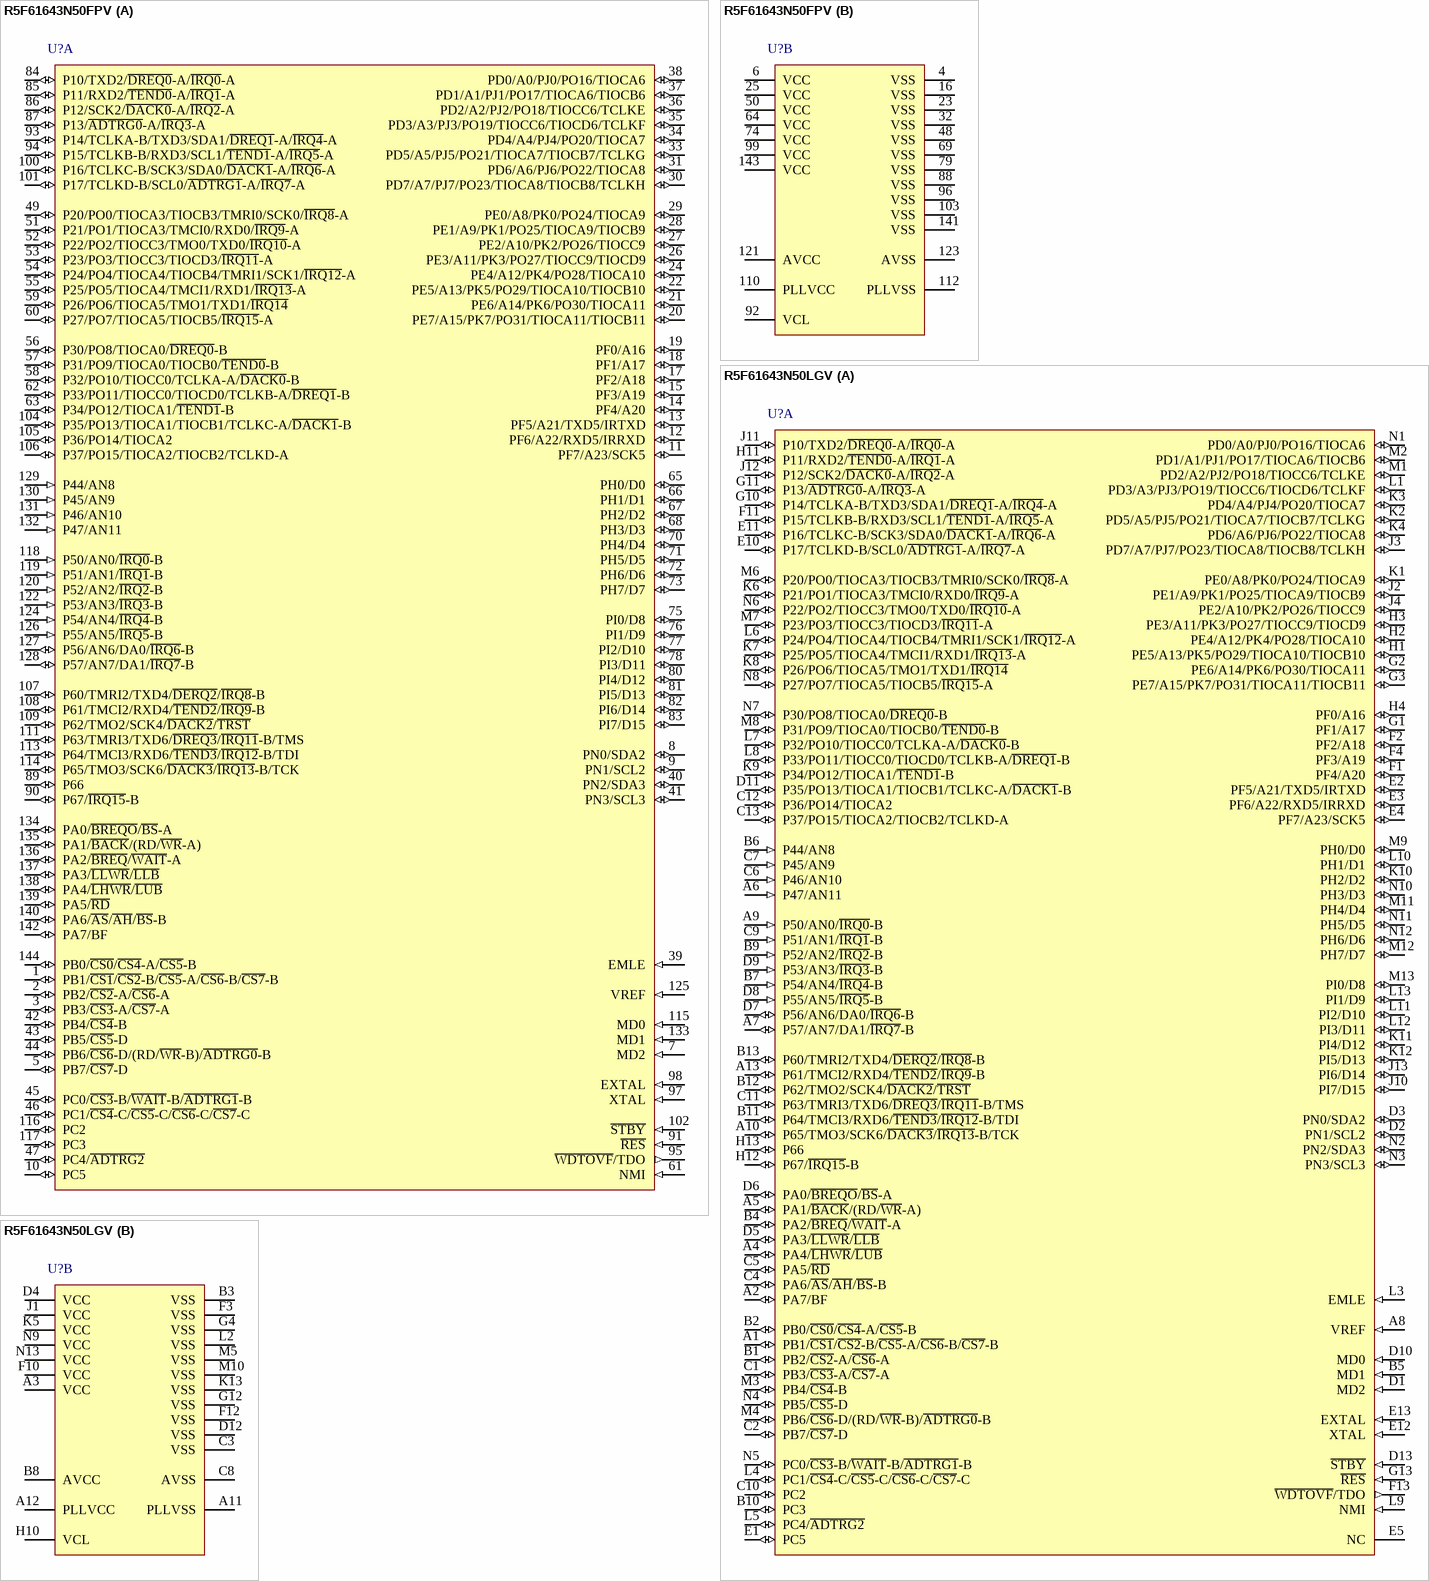
[diagram p29: symbols R5F61643N50FPV to R5F61643N50LGV]

## R5F61643N50FPV
designator U?
Flash memory H8SX/1600 Series, 1645 Group MCU, 384K ROM, 32K RAM, FP-144L Pkg; Published: 28-Aug-2009; DatasheetVersion: Rev.2.00, Oct-2009; PackageVersion: Sep-2005; PackageReference: PLQP0144KA-A; Publisher: Altium Limited; PackageDescription: 144-Pin Plastic Low Profile QFP, 20 x 20 x 1.4 mm Body, 0.5 mm Pitch; Code_JEITA: P-LQFP144-20x20-0.50; Code_IPC: SQFP50P2200X2200-144; ComponentLink1Description: Manufacturer Link; ComponentLink1URL: http://sg.renesas.com/fmwk.jsp?cnt=h8sx_family_landing.jsp&fp=/products/mpumcu/h8sx_family/; ComponentLink2Description: Datasheet; ComponentLink2URL: http://documentation.renesas.com/eng/products/mpumcu/rej09b0497_h8sx1645hm.pdf; ComponentLink3Description: Packaging Specification; ComponentLink3URL: http://sg.renesas.com/media/products/common_info/package/pdf/ic/code/plqp0144ka_a.pdf
footprint PLQP0144KA-A_N (Shrink QFP, 144-Leads, Body 20x20mm, Pitch 0.5mm, IPC Medium Density)
footprint PLQP0144KA-A_L (Shrink QFP, 144-Leads, Body 20x20mm, Pitch 0.5mm, IPC High Density)
footprint PLQP0144KA-A_M (Shrink QFP, 144-Leads, Body 20x20mm, Pitch 0.5mm, IPC Low Density)
part A pins: 1 PB1/~{CS1}/~{CS2}-B/~{CS5}-A/~{CS6}-B/~{CS7}-B (io), 2 PB2/~{CS2}-A/~{CS6}-A (io), 3 PB3/~{CS3}-A/~{CS7}-A (io), 5 PB7/~{CS7}-D (io), 7 MD2 (in), 8 PN0/SDA2 (io), 9 PN1/SCL2 (io), 10 PC5 (io), 11 PF7/A23/SCK5 (io), 12 PF6/A22/RXD5/IRRXD (io), 13 PF5/A21/TXD5/IRTXD (io), 14 PF4/A20 (io), 15 PF3/A19 (io), 17 PF2/A18 (io), 18 PF1/A17 (io), 19 PF0/A16 (io), 20 PE7/A15/PK7/PO31/TIOCA11/TIOCB11 (io), 21 PE6/A14/PK6/PO30/TIOCA11 (io), 22 PE5/A13/PK5/PO29/TIOCA10/TIOCB10 (io), 24 PE4/A12/PK4/PO28/TIOCA10 (io), 26 PE3/A11/PK3/PO27/TIOCC9/TIOCD9 (io), 27 PE2/A10/PK2/PO26/TIOCC9 (io), 28 PE1/A9/PK1/PO25/TIOCA9/TIOCB9 (io), 29 PE0/A8/PK0/PO24/TIOCA9 (io), 30 PD7/A7/PJ7/PO23/TIOCA8/TIOCB8/TCLKH (io), 31 PD6/A6/PJ6/PO22/TIOCA8 (io), 33 PD5/A5/PJ5/PO21/TIOCA7/TIOCB7/TCLKG (io), 34 PD4/A4/PJ4/PO20/TIOCA7 (io), 35 PD3/A3/PJ3/PO19/TIOCC6/TIOCD6/TCLKF (io), 36 PD2/A2/PJ2/PO18/TIOCC6/TCLKE (io), 37 PD1/A1/PJ1/PO17/TIOCA6/TIOCB6 (io), 38 PD0/A0/PJ0/PO16/TIOCA6 (io), 39 EMLE (in), 40 PN2/SDA3 (io), 41 PN3/SCL3 (io), 42 PB4/~{CS4}-B (io), 43 PB5/~{CS5}-D (io), 44 PB6/~{CS6}-D/(RD/~{WR}-B)/~{ADTRG0}-B (io), 45 PC0/~{CS3}-B/~{WAIT}-B/~{ADTRG1}-B (io), 46 PC1/~{CS4}-C/~{CS5}-C/~{CS6}-C/~{CS7}-C (io), 47 PC4/~{ADTRG2} (io), 49 P20/PO0/TIOCA3/TIOCB3/TMRI0/SCK0/~{IRQ8}-A (io), 51 P21/PO1/TIOCA3/TMCI0/RXD0/~{IRQ9}-A (io), 52 P22/PO2/TIOCC3/TMO0/TXD0/~{IRQ10}-A (io), 53 P23/PO3/TIOCC3/TIOCD3/~{IRQ11}-A (io), 54 P24/PO4/TIOCA4/TIOCB4/TMRI1/SCK1/~{IRQ12}-A (io), 55 P25/PO5/TIOCA4/TMCI1/RXD1/~{IRQ13}-A (io), 56 P30/PO8/TIOCA0/~{DREQ0}-B (io), 57 P31/PO9/TIOCA0/TIOCB0/~{TEND0}-B (io), 58 P32/PO10/TIOCC0/TCLKA-A/~{DACK0}-B (io), 59 P26/PO6/TIOCA5/TMO1/TXD1/~{IRQ14} (io), 60 P27/PO7/TIOCA5/TIOCB5/~{IRQ15}-A (io), 61 NMI (in), 62 P33/PO11/TIOCC0/TIOCD0/TCLKB-A/~{DREQ1}-B (io), 63 P34/PO12/TIOCA1/~{TEND1}-B (io), 65 PH0/D0 (io), 66 PH1/D1 (io), 67 PH2/D2 (io), 68 PH3/D3 (io), 70 PH4/D4 (io), 71 PH5/D5 (io), 72 PH6/D6 (io), 73 PH7/D7 (io), 75 PI0/D8 (io), 76 PI1/D9 (io), 77 PI2/D10 (io), 78 PI3/D11 (io), 80 PI4/D12 (io), 81 PI5/D13 (io), 82 PI6/D14 (io), 83 PI7/D15 (io), 84 P10/TXD2/~{DREQ0}-A/~{IRQ0}-A (io), 85 P11/RXD2/~{TEND0}-A/~{IRQ1}-A (io), 86 P12/SCK2/~{DACK0}-A/~{IRQ2}-A (io), 87 P13/~{ADTRG0}-A/~{IRQ3}-A (io), 89 P66 (io), 90 P67/~{IRQ15}-B (io), 91 ~{RES} (in), 93 P14/TCLKA-B/TXD3/SDA1/~{DREQ1}-A/~{IRQ4}-A (io), 94 P15/TCLKB-B/RXD3/SCL1/~{TEND1}-A/~{IRQ5}-A (io), 95 ~{WDTOVF}/TDO (out), 97 XTAL (in), 98 EXTAL (in), 100 P16/TCLKC-B/SCK3/SDA0/~{DACK1}-A/~{IRQ6}-A (io), 101 P17/TCLKD-B/SCL0/~{ADTRG1}-A/~{IRQ7}-A (io), 102 ~{STBY} (in), 104 P35/PO13/TIOCA1/TIOCB1/TCLKC-A/~{DACK1}-B (io), 105 P36/PO14/TIOCA2 (io), 106 P37/PO15/TIOCA2/TIOCB2/TCLKD-A (io), 107 P60/TMRI2/TXD4/~{DERQ2}/~{IRQ8}-B (io), 108 P61/TMCI2/RXD4/~{TEND2}/~{IRQ9}-B (io), 109 P62/TMO2/SCK4/~{DACK2}/~{TRST} (io), 111 P63/TMRI3/TXD6/~{DREQ3}/~{IRQ11}-B/TMS (io), 113 P64/TMCI3/RXD6/~{TEND3}/~{IRQ12}-B/TDI (io), 114 P65/TMO3/SCK6/~{DACK3}/~{IRQ13}-B/TCK (io), 115 MD0 (in), 116 PC2 (io), 117 PC3 (io), 118 P50/AN0/~{IRQ0}-B (in), 119 P51/AN1/~{IRQ1}-B (in), 120 P52/AN2/~{IRQ2}-B (in), 122 P53/AN3/~{IRQ3}-B (in), 124 P54/AN4/~{IRQ4}-B (in), 125 VREF (in), 126 P55/AN5/~{IRQ5}-B (in), 127 P56/AN6/DA0/~{IRQ6}-B (io), 128 P57/AN7/DA1/~{IRQ7}-B (io), 129 P44/AN8 (in), 130 P45/AN9 (in), 131 P46/AN10 (in), 132 P47/AN11 (in), 133 MD1 (in), 134 PA0/~{BREQO}/~{BS}-A (io), 135 PA1/~{BACK}/(RD/~{WR}-A) (io), 136 PA2/~{BREQ}/~{WAIT}-A (io), 137 PA3/~{LLWR}/~{LLB} (io), 138 PA4/~{LHWR}/~{LUB} (io), 139 PA5/~{RD} (io), 140 PA6/~{AS}/~{AH}/~{BS}-B (io), 142 PA7/BF (io), 144 PB0/~{CS0}/~{CS4}-A/~{CS5}-B (io)
part B pins: 4 VSS (power), 6 VCC (power), 16 VSS (power), 23 VSS (power), 25 VCC (power), 32 VSS (power), 48 VSS (power), 50 VCC (power), 64 VCC (power), 69 VSS (power), 74 VCC (power), 79 VSS (power), 88 VSS (power), 92 VCL, 96 VSS (power), 99 VCC (power), 103 VSS (power), 110 PLLVCC (power), 112 PLLVSS (power), 121 AVCC (power), 123 AVSS (power), 141 VSS (power), 143 VCC (power)

## R5F61643N50LGV
designator U?
Flash memory H8SX/1600 Series, 1645 Group MCU, 384K ROM, 32K RAM, TLP-145V Pkg; Published: 28-Aug-2009; DatasheetVersion: Rev.2.00, Oct-2009; PackageVersion: Jun-2006; PackageReference: PTLG0145JB-A; Publisher: Altium Limited; PackageDescription: 145-Ball Plastic Thin Fine-Pitch BGA, 9 x 9 mm Body, 0.65 mm Pitch; Code_JEITA: P-TFLGA145-9x9-0.65; ComponentLink1Description: Manufacturer Link; ComponentLink1URL: http://sg.renesas.com/fmwk.jsp?cnt=h8sx_family_landing.jsp&fp=/products/mpumcu/h8sx_family/; ComponentLink2Description: Datasheet; ComponentLink2URL: http://documentation.renesas.com/eng/products/mpumcu/rej09b0497_h8sx1645hm.pdf; ComponentLink3Description: Packaging Specification; ComponentLink3URL: http://sg.renesas.com/media/products/common_info/package/pdf/ic/code/ptlg0145jb_a.pdf
footprint PTLG0145JB-A (BGA, 145-Leads, Body 9x9mm, Pitch 0.65mm)
part A pins: A1 PB1/~{CS1}/~{CS2}-B/~{CS5}-A/~{CS6}-B/~{CS7}-B (io), A2 PA7/BF (io), A4 PA4/~{LHWR}/~{LUB} (io), A5 PA1/~{BACK}/(RD/~{WR}-A) (io), A6 P47/AN11 (in), A7 P57/AN7/DA1/~{IRQ7}-B (io), A8 VREF (in), A9 P50/AN0/~{IRQ0}-B (in), A10 P65/TMO3/SCK6/~{DACK3}/~{IRQ13}-B/TCK (io), A13 P61/TMCI2/RXD4/~{TEND2}/~{IRQ9}-B (io), B1 PB2/~{CS2}-A/~{CS6}-A (io), B2 PB0/~{CS0}/~{CS4}-A/~{CS5}-B (io), B4 PA2/~{BREQ}/~{WAIT}-A (io), B5 MD1 (in), B6 P44/AN8 (in), B7 P54/AN4/~{IRQ4}-B (in), B9 P52/AN2/~{IRQ2}-B (in), B10 PC3 (io), B11 P64/TMCI3/RXD6/~{TEND3}/~{IRQ12}-B/TDI (io), B12 P62/TMO2/SCK4/~{DACK2}/~{TRST} (io), B13 P60/TMRI2/TXD4/~{DERQ2}/~{IRQ8}-B (io), C1 PB3/~{CS3}-A/~{CS7}-A (io), C2 PB7/~{CS7}-D (io), C4 PA6/~{AS}/~{AH}/~{BS}-B (io), C5 PA5/~{RD} (io), C6 P46/AN10 (in), C7 P45/AN9 (in), C9 P51/AN1/~{IRQ1}-B (in), C10 PC2 (io), C11 P63/TMRI3/TXD6/~{DREQ3}/~{IRQ11}-B/TMS (io), C12 P36/PO14/TIOCA2 (io), C13 P37/PO15/TIOCA2/TIOCB2/TCLKD-A (io), D1 MD2 (in), D2 PN1/SCL2 (io), D3 PN0/SDA2 (io), D5 PA3/~{LLWR}/~{LLB} (io), D6 PA0/~{BREQO}/~{BS}-A (io), D7 P56/AN6/DA0/~{IRQ6}-B (io), D8 P55/AN5/~{IRQ5}-B (in), D9 P53/AN3/~{IRQ3}-B (in), D10 MD0 (in), D11 P35/PO13/TIOCA1/TIOCB1/TCLKC-A/~{DACK1}-B (io), D13 ~{STBY} (in), E1 PC5 (io), E2 PF5/A21/TXD5/IRTXD (io), E3 PF6/A22/RXD5/IRRXD (io), E4 PF7/A23/SCK5 (io), E5 NC, E10 P17/TCLKD-B/SCL0/~{ADTRG1}-A/~{IRQ7}-A (io), E11 P16/TCLKC-B/SCK3/SDA0/~{DACK1}-A/~{IRQ6}-A (io), E12 XTAL (in), E13 EXTAL (in), F1 PF4/A20 (io), F2 PF2/A18 (io), F4 PF3/A19 (io), F11 P15/TCLKB-B/RXD3/SCL1/~{TEND1}-A/~{IRQ5}-A (io), F13 ~{WDTOVF}/TDO (out), G1 PF1/A17 (io), G2 PE6/A14/PK6/PO30/TIOCA11 (io), G3 PE7/A15/PK7/PO31/TIOCA11/TIOCB11 (io), G10 P14/TCLKA-B/TXD3/SDA1/~{DREQ1}-A/~{IRQ4}-A (io), G11 P13/~{ADTRG0}-A/~{IRQ3}-A (io), G13 ~{RES} (in), H1 PE5/A13/PK5/PO29/TIOCA10/TIOCB10 (io), H2 PE4/A12/PK4/PO28/TIOCA10 (io), H3 PE3/A11/PK3/PO27/TIOCC9/TIOCD9 (io), H4 PF0/A16 (io), H11 P11/RXD2/~{TEND0}-A/~{IRQ1}-A (io), H12 P67/~{IRQ15}-B (io), H13 P66 (io), J2 PE1/A9/PK1/PO25/TIOCA9/TIOCB9 (io), J3 PD7/A7/PJ7/PO23/TIOCA8/TIOCB8/TCLKH (io), J4 PE2/A10/PK2/PO26/TIOCC9 (io), J10 PI7/D15 (io), J11 P10/TXD2/~{DREQ0}-A/~{IRQ0}-A (io), J12 P12/SCK2/~{DACK0}-A/~{IRQ2}-A (io), J13 PI6/D14 (io), K1 PE0/A8/PK0/PO24/TIOCA9 (io), K2 PD5/A5/PJ5/PO21/TIOCA7/TIOCB7/TCLKG (io), K3 PD4/A4/PJ4/PO20/TIOCA7 (io), K4 PD6/A6/PJ6/PO22/TIOCA8 (io), K6 P21/PO1/TIOCA3/TMCI0/RXD0/~{IRQ9}-A (io), K7 P25/PO5/TIOCA4/TMCI1/RXD1/~{IRQ13}-A (io), K8 P26/PO6/TIOCA5/TMO1/TXD1/~{IRQ14} (io), K9 P34/PO12/TIOCA1/~{TEND1}-B (io), K10 PH2/D2 (io), K11 PI4/D12 (io), K12 PI5/D13 (io), L1 PD3/A3/PJ3/PO19/TIOCC6/TIOCD6/TCLKF (io), L3 EMLE (in), L4 PC1/~{CS4}-C/~{CS5}-C/~{CS6}-C/~{CS7}-C (io), L5 PC4/~{ADTRG2} (io), L6 P24/PO4/TIOCA4/TIOCB4/TMRI1/SCK1/~{IRQ12}-A (io), L7 P32/PO10/TIOCC0/TCLKA-A/~{DACK0}-B (io), L8 P33/PO11/TIOCC0/TIOCD0/TCLKB-A/~{DREQ1}-B (io), L9 NMI (in), L10 PH1/D1 (io), L11 PI2/D10 (io), L12 PI3/D11 (io), L13 PI1/D9 (io), M1 PD2/A2/PJ2/PO18/TIOCC6/TCLKE (io), M2 PD1/A1/PJ1/PO17/TIOCA6/TIOCB6 (io), M3 PB4/~{CS4}-B (io), M4 PB6/~{CS6}-D/(RD/~{WR}-B)/~{ADTRG0}-B (io), M6 P20/PO0/TIOCA3/TIOCB3/TMRI0/SCK0/~{IRQ8}-A (io), M7 P23/PO3/TIOCC3/TIOCD3/~{IRQ11}-A (io), M8 P31/PO9/TIOCA0/TIOCB0/~{TEND0}-B (io), M9 PH0/D0 (io), M11 PH4/D4 (io), M12 PH7/D7 (io), M13 PI0/D8 (io), N1 PD0/A0/PJ0/PO16/TIOCA6 (io), N2 PN2/SDA3 (io), N3 PN3/SCL3 (io), N4 PB5/~{CS5}-D (io), N5 PC0/~{CS3}-B/~{WAIT}-B/~{ADTRG1}-B (io), N6 P22/PO2/TIOCC3/TMO0/TXD0/~{IRQ10}-A (io), N7 P30/PO8/TIOCA0/~{DREQ0}-B (io), N8 P27/PO7/TIOCA5/TIOCB5/~{IRQ15}-A (io), N10 PH3/D3 (io), N11 PH5/D5 (io), N12 PH6/D6 (io)
part B pins: A3 VCC (power), A11 PLLVSS (power), A12 PLLVCC (power), B3 VSS (power), B8 AVCC (power), C3 VSS (power), C8 AVSS (power), D4 VCC (power), D12 VSS (power), F3 VSS (power), F10 VCC (power), F12 VSS (power), G4 VSS (power), G12 VSS (power), H10 VCL, J1 VCC (power), K5 VCC (power), K13 VSS (power), L2 VSS (power), M5 VSS (power), M10 VSS (power), N9 VCC (power), N13 VCC (power)

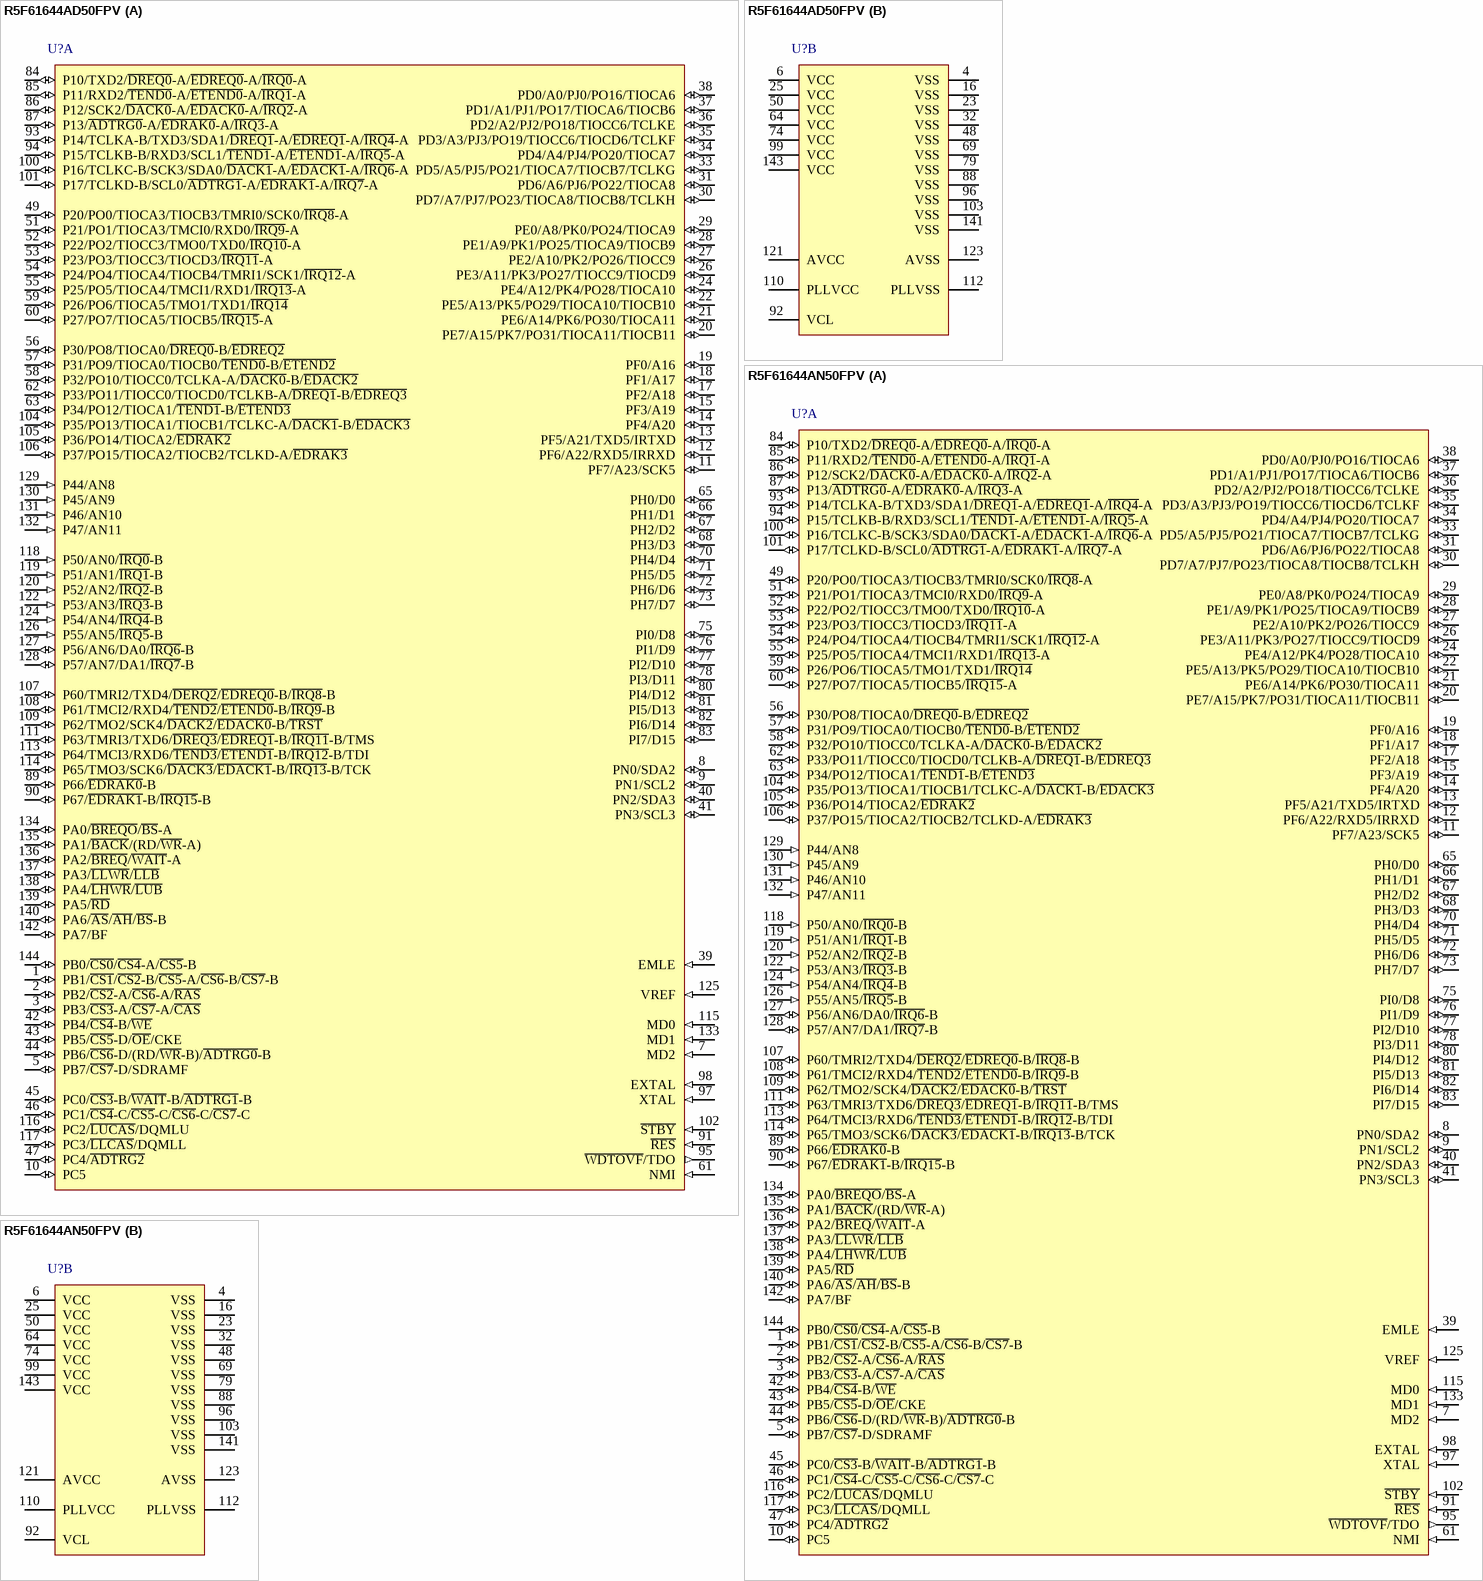
[diagram p30: symbols R5F61644AD50FPV to R5F61644AN50FPV]

## R5F61644AD50FPV
designator U?
Flash memory H8SX/1600 Series, 1648A Group MCU, 512K ROM, 40K RAM, FP-144L Pkg; Published: 28-Aug-2009; DatasheetVersion: Rev.2.00, Jul-2008; PackageVersion: Sep-2005; PackageReference: PLQP0144KA-A; Publisher: Altium Limited; PackageDescription: 144-Pin Plastic Low Profile QFP, 20 x 20 x 1.4 mm Body, 0.5 mm Pitch; Code_JEITA: P-LQFP144-20x20-0.50; Code_IPC: SQFP50P2200X2200-144; ComponentLink1Description: Manufacturer Link; ComponentLink1URL: http://sg.renesas.com/fmwk.jsp?cnt=h8sx_family_landing.jsp&fp=/products/mpumcu/h8sx_family/; ComponentLink2Description: Datasheet; ComponentLink2URL: http://documentation.renesas.com/eng/products/mpumcu/rej09b0365_h8sx1648hm.pdf; ComponentLink3Description: Packaging Specification; ComponentLink3URL: http://sg.renesas.com/media/products/common_info/package/pdf/ic/code/plqp0144ka_a.pdf
footprint PLQP0144KA-A_N (Shrink QFP, 144-Leads, Body 20x20mm, Pitch 0.5mm, IPC Medium Density)
footprint PLQP0144KA-A_L (Shrink QFP, 144-Leads, Body 20x20mm, Pitch 0.5mm, IPC High Density)
footprint PLQP0144KA-A_M (Shrink QFP, 144-Leads, Body 20x20mm, Pitch 0.5mm, IPC Low Density)
part A pins: 1 PB1/~{CS1}/~{CS2}-B/~{CS5}-A/~{CS6}-B/~{CS7}-B (io), 2 PB2/~{CS2}-A/~{CS6}-A/~{RAS} (io), 3 PB3/~{CS3}-A/~{CS7}-A/~{CAS} (io), 5 PB7/~{CS7}-D/SDRAMF (io), 7 MD2 (in), 8 PN0/SDA2 (io), 9 PN1/SCL2 (io), 10 PC5 (io), 11 PF7/A23/SCK5 (io), 12 PF6/A22/RXD5/IRRXD (io), 13 PF5/A21/TXD5/IRTXD (io), 14 PF4/A20 (io), 15 PF3/A19 (io), 17 PF2/A18 (io), 18 PF1/A17 (io), 19 PF0/A16 (io), 20 PE7/A15/PK7/PO31/TIOCA11/TIOCB11 (io), 21 PE6/A14/PK6/PO30/TIOCA11 (io), 22 PE5/A13/PK5/PO29/TIOCA10/TIOCB10 (io), 24 PE4/A12/PK4/PO28/TIOCA10 (io), 26 PE3/A11/PK3/PO27/TIOCC9/TIOCD9 (io), 27 PE2/A10/PK2/PO26/TIOCC9 (io), 28 PE1/A9/PK1/PO25/TIOCA9/TIOCB9 (io), 29 PE0/A8/PK0/PO24/TIOCA9 (io), 30 PD7/A7/PJ7/PO23/TIOCA8/TIOCB8/TCLKH (io), 31 PD6/A6/PJ6/PO22/TIOCA8 (io), 33 PD5/A5/PJ5/PO21/TIOCA7/TIOCB7/TCLKG (io), 34 PD4/A4/PJ4/PO20/TIOCA7 (io), 35 PD3/A3/PJ3/PO19/TIOCC6/TIOCD6/TCLKF (io), 36 PD2/A2/PJ2/PO18/TIOCC6/TCLKE (io), 37 PD1/A1/PJ1/PO17/TIOCA6/TIOCB6 (io), 38 PD0/A0/PJ0/PO16/TIOCA6 (io), 39 EMLE (in), 40 PN2/SDA3 (io), 41 PN3/SCL3 (io), 42 PB4/~{CS4}-B/~{WE} (io), 43 PB5/~{CS5}-D/~{OE}/CKE (io), 44 PB6/~{CS6}-D/(RD/~{WR}-B)/~{ADTRG0}-B (io), 45 PC0/~{CS3}-B/~{WAIT}-B/~{ADTRG1}-B (io), 46 PC1/~{CS4}-C/~{CS5}-C/~{CS6}-C/~{CS7}-C (io), 47 PC4/~{ADTRG2} (io), 49 P20/PO0/TIOCA3/TIOCB3/TMRI0/SCK0/~{IRQ8}-A (io), 51 P21/PO1/TIOCA3/TMCI0/RXD0/~{IRQ9}-A (io), 52 P22/PO2/TIOCC3/TMO0/TXD0/~{IRQ10}-A (io), 53 P23/PO3/TIOCC3/TIOCD3/~{IRQ11}-A (io), 54 P24/PO4/TIOCA4/TIOCB4/TMRI1/SCK1/~{IRQ12}-A (io), 55 P25/PO5/TIOCA4/TMCI1/RXD1/~{IRQ13}-A (io), 56 P30/PO8/TIOCA0/~{DREQ0}-B/~{EDREQ2} (io), 57 P31/PO9/TIOCA0/TIOCB0/~{TEND0}-B/~{ETEND2} (io), 58 P32/PO10/TIOCC0/TCLKA-A/~{DACK0}-B/~{EDACK2} (io), 59 P26/PO6/TIOCA5/TMO1/TXD1/~{IRQ14} (io), 60 P27/PO7/TIOCA5/TIOCB5/~{IRQ15}-A (io), 61 NMI (in), 62 P33/PO11/TIOCC0/TIOCD0/TCLKB-A/~{DREQ1}-B/~{EDREQ3} (io), 63 P34/PO12/TIOCA1/~{TEND1}-B/~{ETEND3} (io), 65 PH0/D0 (io), 66 PH1/D1 (io), 67 PH2/D2 (io), 68 PH3/D3 (io), 70 PH4/D4 (io), 71 PH5/D5 (io), 72 PH6/D6 (io), 73 PH7/D7 (io), 75 PI0/D8 (io), 76 PI1/D9 (io), 77 PI2/D10 (io), 78 PI3/D11 (io), 80 PI4/D12 (io), 81 PI5/D13 (io), 82 PI6/D14 (io), 83 PI7/D15 (io), 84 P10/TXD2/~{DREQ0}-A/~{EDREQ0}-A/~{IRQ0}-A (io), 85 P11/RXD2/~{TEND0}-A/~{ETEND0}-A/~{IRQ1}-A (io), 86 P12/SCK2/~{DACK0}-A/~{EDACK0}-A/~{IRQ2}-A (io), 87 P13/~{ADTRG0}-A/~{EDRAK0}-A/~{IRQ3}-A (io), 89 P66/~{EDRAK0}-B (io), 90 P67/~{EDRAK1}-B/~{IRQ15}-B (io), 91 ~{RES} (in), 93 P14/TCLKA-B/TXD3/SDA1/~{DREQ1}-A/~{EDREQ1}-A/~{IRQ4}-A (io), 94 P15/TCLKB-B/RXD3/SCL1/~{TEND1}-A/~{ETEND1}-A/~{IRQ5}-A (io), 95 ~{WDTOVF}/TDO (out), 97 XTAL (in), 98 EXTAL (in), 100 P16/TCLKC-B/SCK3/SDA0/~{DACK1}-A/~{EDACK1}-A/~{IRQ6}-A (io), 101 P17/TCLKD-B/SCL0/~{ADTRG1}-A/~{EDRAK1}-A/~{IRQ7}-A (io), 102 ~{STBY} (in), 104 P35/PO13/TIOCA1/TIOCB1/TCLKC-A/~{DACK1}-B/~{EDACK3} (io), 105 P36/PO14/TIOCA2/~{EDRAK2} (io), 106 P37/PO15/TIOCA2/TIOCB2/TCLKD-A/~{EDRAK3} (io), 107 P60/TMRI2/TXD4/~{DERQ2}/~{EDREQ0}-B/~{IRQ8}-B (io), 108 P61/TMCI2/RXD4/~{TEND2}/~{ETEND0}-B/~{IRQ9}-B (io), 109 P62/TMO2/SCK4/~{DACK2}/~{EDACK0}-B/~{TRST} (io), 111 P63/TMRI3/TXD6/~{DREQ3}/~{EDREQ1}-B/~{IRQ11}-B/TMS (io), 113 P64/TMCI3/RXD6/~{TEND3}/~{ETEND1}-B/~{IRQ12}-B/TDI (io), 114 P65/TMO3/SCK6/~{DACK3}/~{EDACK1}-B/~{IRQ13}-B/TCK (io), 115 MD0 (in), 116 PC2/~{LUCAS}/DQMLU (io), 117 PC3/~{LLCAS}/DQMLL (io), 118 P50/AN0/~{IRQ0}-B (in), 119 P51/AN1/~{IRQ1}-B (in), 120 P52/AN2/~{IRQ2}-B (in), 122 P53/AN3/~{IRQ3}-B (in), 124 P54/AN4/~{IRQ4}-B (in), 125 VREF (in), 126 P55/AN5/~{IRQ5}-B (in), 127 P56/AN6/DA0/~{IRQ6}-B (io), 128 P57/AN7/DA1/~{IRQ7}-B (io), 129 P44/AN8 (in), 130 P45/AN9 (in), 131 P46/AN10 (in), 132 P47/AN11 (in), 133 MD1 (in), 134 PA0/~{BREQO}/~{BS}-A (io), 135 PA1/~{BACK}/(RD/~{WR}-A) (io), 136 PA2/~{BREQ}/~{WAIT}-A (io), 137 PA3/~{LLWR}/~{LLB} (io), 138 PA4/~{LHWR}/~{LUB} (io), 139 PA5/~{RD} (io), 140 PA6/~{AS}/~{AH}/~{BS}-B (io), 142 PA7/BF (io), 144 PB0/~{CS0}/~{CS4}-A/~{CS5}-B (io)
part B pins: 4 VSS (power), 6 VCC (power), 16 VSS (power), 23 VSS (power), 25 VCC (power), 32 VSS (power), 48 VSS (power), 50 VCC (power), 64 VCC (power), 69 VSS (power), 74 VCC (power), 79 VSS (power), 88 VSS (power), 92 VCL, 96 VSS (power), 99 VCC (power), 103 VSS (power), 110 PLLVCC (power), 112 PLLVSS (power), 121 AVCC (power), 123 AVSS (power), 141 VSS (power), 143 VCC (power)

## R5F61644AN50FPV
designator U?
Flash memory H8SX/1600 Series, 1648A Group MCU, 512K ROM, 40K RAM, FP-144L Pkg; Published: 28-Aug-2009; DatasheetVersion: Rev.2.00, Jul-2008; PackageVersion: Sep-2005; PackageReference: PLQP0144KA-A; Publisher: Altium Limited; PackageDescription: 144-Pin Plastic Low Profile QFP, 20 x 20 x 1.4 mm Body, 0.5 mm Pitch; Code_JEITA: P-LQFP144-20x20-0.50; Code_IPC: SQFP50P2200X2200-144; ComponentLink1Description: Manufacturer Link; ComponentLink1URL: http://sg.renesas.com/fmwk.jsp?cnt=h8sx_family_landing.jsp&fp=/products/mpumcu/h8sx_family/; ComponentLink2Description: Datasheet; ComponentLink2URL: http://documentation.renesas.com/eng/products/mpumcu/rej09b0365_h8sx1648hm.pdf; ComponentLink3Description: Packaging Specification; ComponentLink3URL: http://sg.renesas.com/media/products/common_info/package/pdf/ic/code/plqp0144ka_a.pdf
footprint PLQP0144KA-A_N (Shrink QFP, 144-Leads, Body 20x20mm, Pitch 0.5mm, IPC Medium Density)
footprint PLQP0144KA-A_L (Shrink QFP, 144-Leads, Body 20x20mm, Pitch 0.5mm, IPC High Density)
footprint PLQP0144KA-A_M (Shrink QFP, 144-Leads, Body 20x20mm, Pitch 0.5mm, IPC Low Density)
part A pins: 1 PB1/~{CS1}/~{CS2}-B/~{CS5}-A/~{CS6}-B/~{CS7}-B (io), 2 PB2/~{CS2}-A/~{CS6}-A/~{RAS} (io), 3 PB3/~{CS3}-A/~{CS7}-A/~{CAS} (io), 5 PB7/~{CS7}-D/SDRAMF (io), 7 MD2 (in), 8 PN0/SDA2 (io), 9 PN1/SCL2 (io), 10 PC5 (io), 11 PF7/A23/SCK5 (io), 12 PF6/A22/RXD5/IRRXD (io), 13 PF5/A21/TXD5/IRTXD (io), 14 PF4/A20 (io), 15 PF3/A19 (io), 17 PF2/A18 (io), 18 PF1/A17 (io), 19 PF0/A16 (io), 20 PE7/A15/PK7/PO31/TIOCA11/TIOCB11 (io), 21 PE6/A14/PK6/PO30/TIOCA11 (io), 22 PE5/A13/PK5/PO29/TIOCA10/TIOCB10 (io), 24 PE4/A12/PK4/PO28/TIOCA10 (io), 26 PE3/A11/PK3/PO27/TIOCC9/TIOCD9 (io), 27 PE2/A10/PK2/PO26/TIOCC9 (io), 28 PE1/A9/PK1/PO25/TIOCA9/TIOCB9 (io), 29 PE0/A8/PK0/PO24/TIOCA9 (io), 30 PD7/A7/PJ7/PO23/TIOCA8/TIOCB8/TCLKH (io), 31 PD6/A6/PJ6/PO22/TIOCA8 (io), 33 PD5/A5/PJ5/PO21/TIOCA7/TIOCB7/TCLKG (io), 34 PD4/A4/PJ4/PO20/TIOCA7 (io), 35 PD3/A3/PJ3/PO19/TIOCC6/TIOCD6/TCLKF (io), 36 PD2/A2/PJ2/PO18/TIOCC6/TCLKE (io), 37 PD1/A1/PJ1/PO17/TIOCA6/TIOCB6 (io), 38 PD0/A0/PJ0/PO16/TIOCA6 (io), 39 EMLE (in), 40 PN2/SDA3 (io), 41 PN3/SCL3 (io), 42 PB4/~{CS4}-B/~{WE} (io), 43 PB5/~{CS5}-D/~{OE}/CKE (io), 44 PB6/~{CS6}-D/(RD/~{WR}-B)/~{ADTRG0}-B (io), 45 PC0/~{CS3}-B/~{WAIT}-B/~{ADTRG1}-B (io), 46 PC1/~{CS4}-C/~{CS5}-C/~{CS6}-C/~{CS7}-C (io), 47 PC4/~{ADTRG2} (io), 49 P20/PO0/TIOCA3/TIOCB3/TMRI0/SCK0/~{IRQ8}-A (io), 51 P21/PO1/TIOCA3/TMCI0/RXD0/~{IRQ9}-A (io), 52 P22/PO2/TIOCC3/TMO0/TXD0/~{IRQ10}-A (io), 53 P23/PO3/TIOCC3/TIOCD3/~{IRQ11}-A (io), 54 P24/PO4/TIOCA4/TIOCB4/TMRI1/SCK1/~{IRQ12}-A (io), 55 P25/PO5/TIOCA4/TMCI1/RXD1/~{IRQ13}-A (io), 56 P30/PO8/TIOCA0/~{DREQ0}-B/~{EDREQ2} (io), 57 P31/PO9/TIOCA0/TIOCB0/~{TEND0}-B/~{ETEND2} (io), 58 P32/PO10/TIOCC0/TCLKA-A/~{DACK0}-B/~{EDACK2} (io), 59 P26/PO6/TIOCA5/TMO1/TXD1/~{IRQ14} (io), 60 P27/PO7/TIOCA5/TIOCB5/~{IRQ15}-A (io), 61 NMI (in), 62 P33/PO11/TIOCC0/TIOCD0/TCLKB-A/~{DREQ1}-B/~{EDREQ3} (io), 63 P34/PO12/TIOCA1/~{TEND1}-B/~{ETEND3} (io), 65 PH0/D0 (io), 66 PH1/D1 (io), 67 PH2/D2 (io), 68 PH3/D3 (io), 70 PH4/D4 (io), 71 PH5/D5 (io), 72 PH6/D6 (io), 73 PH7/D7 (io), 75 PI0/D8 (io), 76 PI1/D9 (io), 77 PI2/D10 (io), 78 PI3/D11 (io), 80 PI4/D12 (io), 81 PI5/D13 (io), 82 PI6/D14 (io), 83 PI7/D15 (io), 84 P10/TXD2/~{DREQ0}-A/~{EDREQ0}-A/~{IRQ0}-A (io), 85 P11/RXD2/~{TEND0}-A/~{ETEND0}-A/~{IRQ1}-A (io), 86 P12/SCK2/~{DACK0}-A/~{EDACK0}-A/~{IRQ2}-A (io), 87 P13/~{ADTRG0}-A/~{EDRAK0}-A/~{IRQ3}-A (io), 89 P66/~{EDRAK0}-B (io), 90 P67/~{EDRAK1}-B/~{IRQ15}-B (io), 91 ~{RES} (in), 93 P14/TCLKA-B/TXD3/SDA1/~{DREQ1}-A/~{EDREQ1}-A/~{IRQ4}-A (io), 94 P15/TCLKB-B/RXD3/SCL1/~{TEND1}-A/~{ETEND1}-A/~{IRQ5}-A (io), 95 ~{WDTOVF}/TDO (out), 97 XTAL (in), 98 EXTAL (in), 100 P16/TCLKC-B/SCK3/SDA0/~{DACK1}-A/~{EDACK1}-A/~{IRQ6}-A (io), 101 P17/TCLKD-B/SCL0/~{ADTRG1}-A/~{EDRAK1}-A/~{IRQ7}-A (io), 102 ~{STBY} (in), 104 P35/PO13/TIOCA1/TIOCB1/TCLKC-A/~{DACK1}-B/~{EDACK3} (io), 105 P36/PO14/TIOCA2/~{EDRAK2} (io), 106 P37/PO15/TIOCA2/TIOCB2/TCLKD-A/~{EDRAK3} (io), 107 P60/TMRI2/TXD4/~{DERQ2}/~{EDREQ0}-B/~{IRQ8}-B (io), 108 P61/TMCI2/RXD4/~{TEND2}/~{ETEND0}-B/~{IRQ9}-B (io), 109 P62/TMO2/SCK4/~{DACK2}/~{EDACK0}-B/~{TRST} (io), 111 P63/TMRI3/TXD6/~{DREQ3}/~{EDREQ1}-B/~{IRQ11}-B/TMS (io), 113 P64/TMCI3/RXD6/~{TEND3}/~{ETEND1}-B/~{IRQ12}-B/TDI (io), 114 P65/TMO3/SCK6/~{DACK3}/~{EDACK1}-B/~{IRQ13}-B/TCK (io), 115 MD0 (in), 116 PC2/~{LUCAS}/DQMLU (io), 117 PC3/~{LLCAS}/DQMLL (io), 118 P50/AN0/~{IRQ0}-B (in), 119 P51/AN1/~{IRQ1}-B (in), 120 P52/AN2/~{IRQ2}-B (in), 122 P53/AN3/~{IRQ3}-B (in), 124 P54/AN4/~{IRQ4}-B (in), 125 VREF (in), 126 P55/AN5/~{IRQ5}-B (in), 127 P56/AN6/DA0/~{IRQ6}-B (io), 128 P57/AN7/DA1/~{IRQ7}-B (io), 129 P44/AN8 (in), 130 P45/AN9 (in), 131 P46/AN10 (in), 132 P47/AN11 (in), 133 MD1 (in), 134 PA0/~{BREQO}/~{BS}-A (io), 135 PA1/~{BACK}/(RD/~{WR}-A) (io), 136 PA2/~{BREQ}/~{WAIT}-A (io), 137 PA3/~{LLWR}/~{LLB} (io), 138 PA4/~{LHWR}/~{LUB} (io), 139 PA5/~{RD} (io), 140 PA6/~{AS}/~{AH}/~{BS}-B (io), 142 PA7/BF (io), 144 PB0/~{CS0}/~{CS4}-A/~{CS5}-B (io)
part B pins: 4 VSS (power), 6 VCC (power), 16 VSS (power), 23 VSS (power), 25 VCC (power), 32 VSS (power), 48 VSS (power), 50 VCC (power), 64 VCC (power), 69 VSS (power), 74 VCC (power), 79 VSS (power), 88 VSS (power), 92 VCL, 96 VSS (power), 99 VCC (power), 103 VSS (power), 110 PLLVCC (power), 112 PLLVSS (power), 121 AVCC (power), 123 AVSS (power), 141 VSS (power), 143 VCC (power)

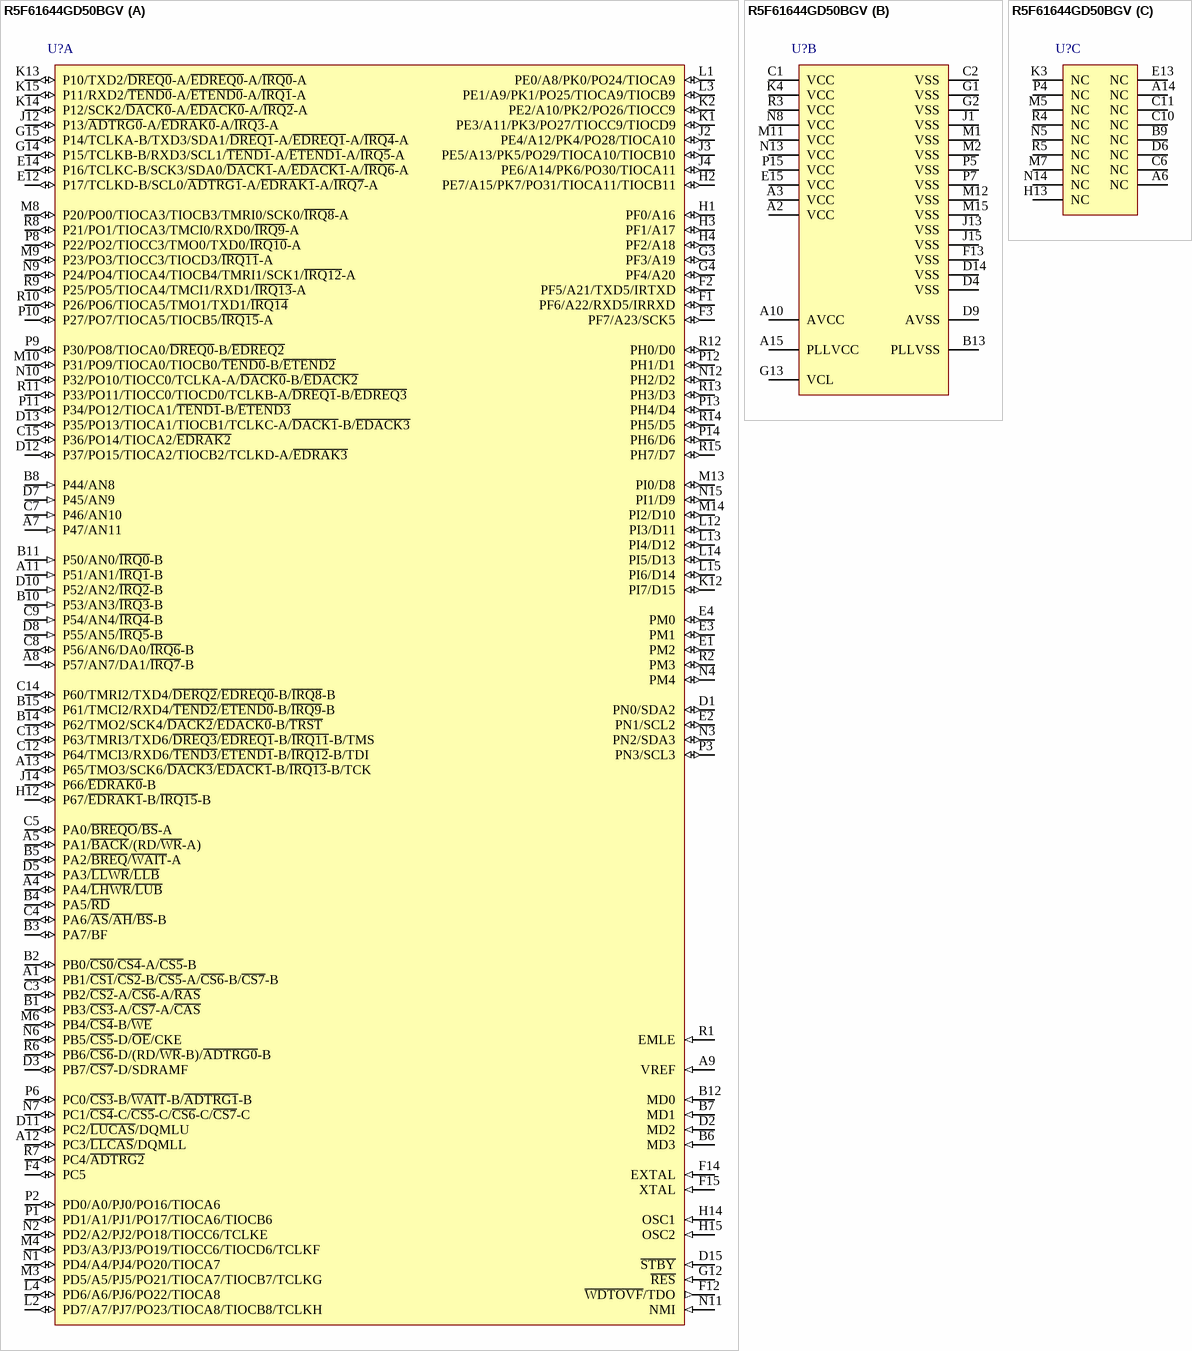
[diagram p31: symbol R5F61644GD50BGV]